# Altium integrated library Renesas Microcontroller H8.IntLib: 489 symbols (part 22 of 25)
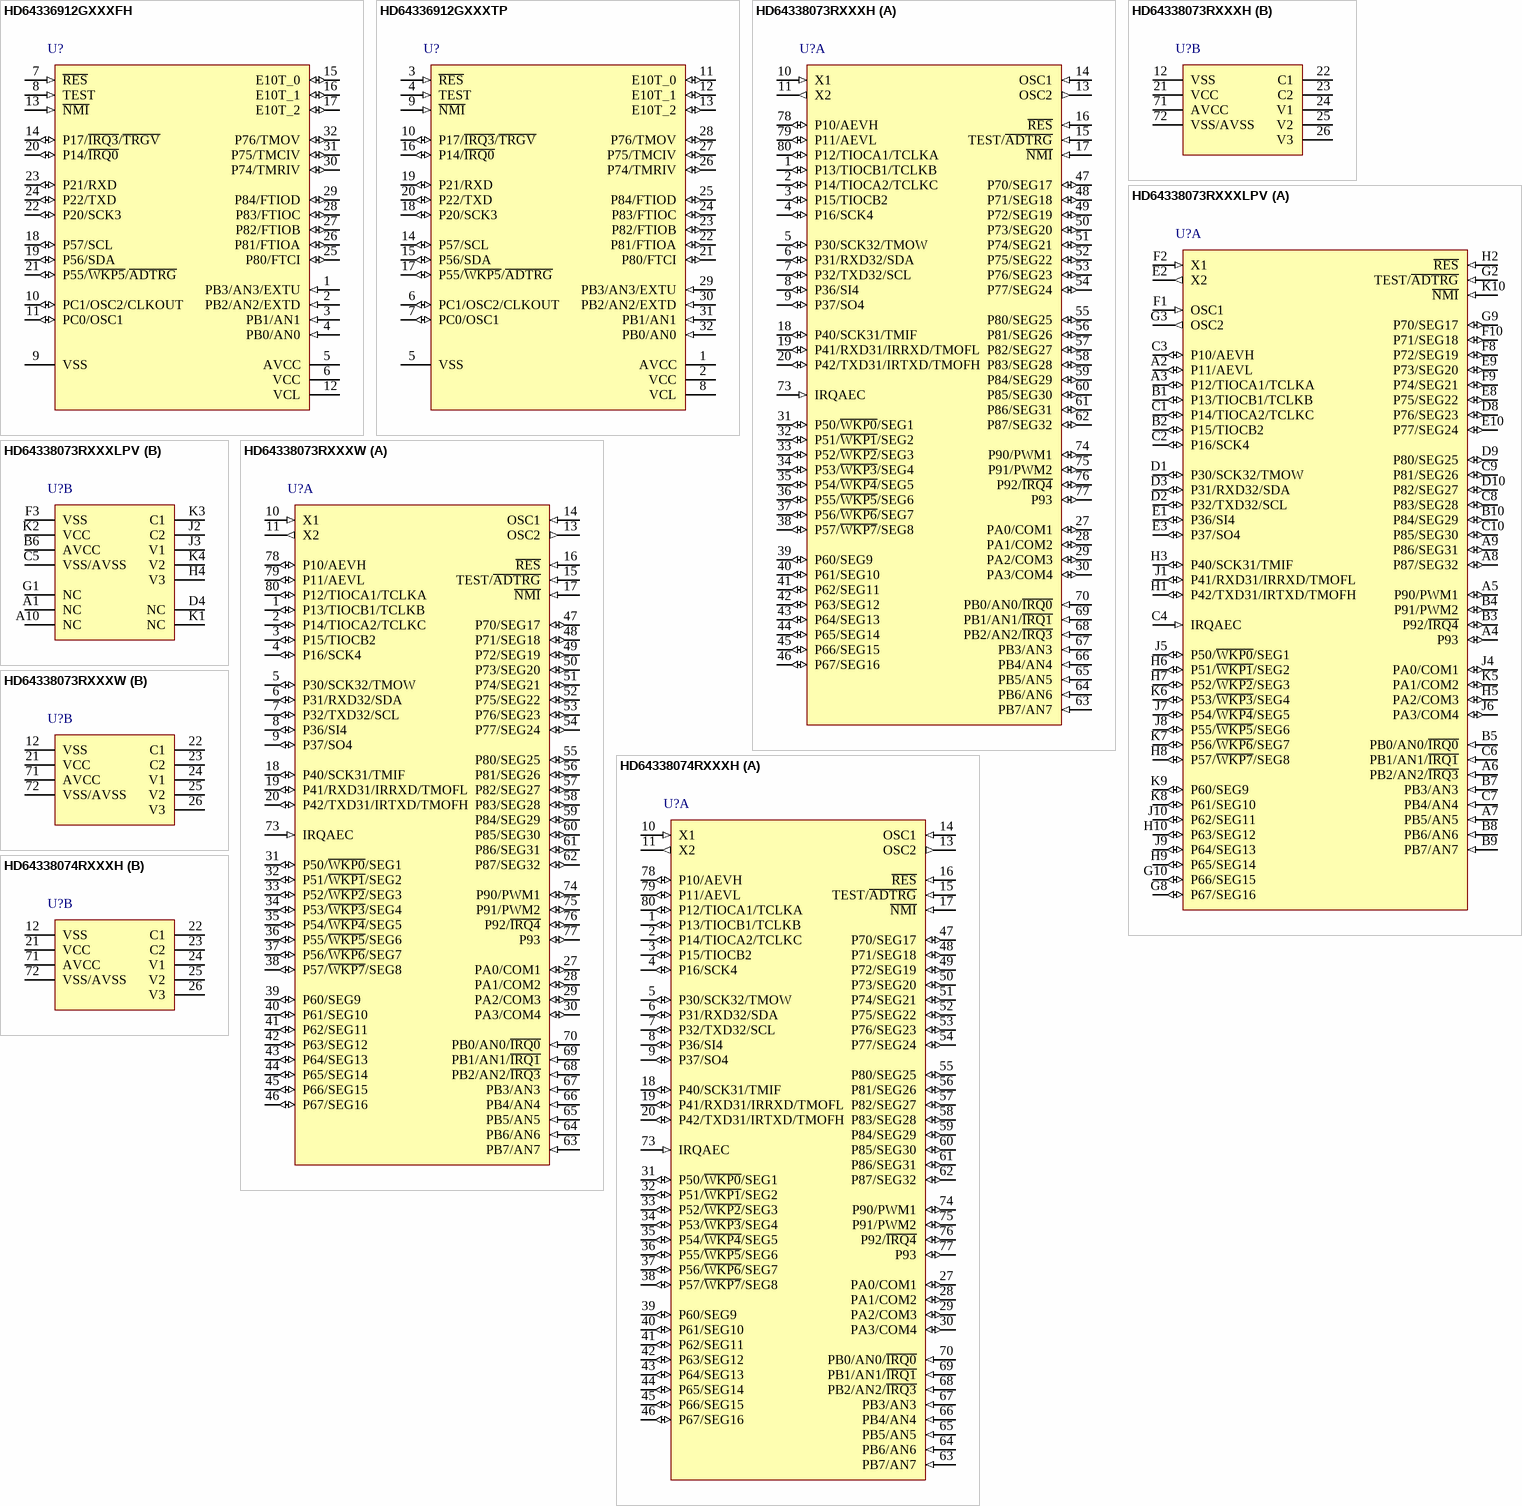
[diagram p109: symbols HD64336912GXXXFH to HD64338074RXXXH]

## HD64338073RXXXH
designator U?
H8 Family 32/16-bit CISC, H8/300H Super Low Power, 24K ROM, 1K RAM, 4.2MHz, 1.8 to 3.6V, 80-Pin QFP; Published: 28-Aug-2009; DatasheetVersion: Rev.4.00, Aug-2006; PackageVersion: Sep-2005; PackageReference: PRQP0080JB-A; Publisher: Altium Limited; PackageDescription: 80-Pin Plastic Quad Flat Pack, 14 x 14 x 2.7 mm Body, 0.65 mm Pitch; Code_JEITA: P-QFP80-14x14-0.65; Code_IPC: QFP65P1720X1720-80; ComponentLink1Description: Manufacturer Link; ComponentLink1URL: http://sg.renesas.com/fmwk.jsp?cnt=h8_family_landing.jsp&fp=/products/mpumcu/h8_family/; ComponentLink2Description: Datasheet; ComponentLink2URL: http://documentation.renesas.com/eng/products/mpumcu/rej09b0093_h838076r.pdf; ComponentLink3Description: Packaging Specification; ComponentLink3URL: http://sg.renesas.com/media/products/common_info/package/pdf/ic/code/prqp0080jb_a.pdf
footprint PRQP0080JB-A_N (QFP, 80-Leads, Body 14x14mm, Pitch 0.65mm, IPC Medium Density)
footprint PRQP0080JB-A_L (QFP, 80-Leads, Body 14x14mm, Pitch 0.65mm, IPC High Density)
footprint PRQP0080JB-A_M (QFP, 80-Leads, Body 14x14mm, Pitch 0.65mm, IPC Low Density)
part A pins: 1 P13/TIOCB1/TCLKB (io), 2 P14/TIOCA2/TCLKC (io), 3 P15/TIOCB2 (io), 4 P16/SCK4 (io), 5 P30/SCK32/TMOW (io), 6 P31/RXD32/SDA (io), 7 P32/TXD32/SCL (io), 8 P36/SI4 (io), 9 P37/SO4 (io), 10 X1 (in), 11 X2 (out), 13 OSC2 (out), 14 OSC1 (in), 15 TEST/~{ADTRG} (in), 16 ~{RES} (in), 17 ~{NMI} (in), 18 P40/SCK31/TMIF (io), 19 P41/RXD31/IRRXD/TMOFL (io), 20 P42/TXD31/IRTXD/TMOFH (io), 27 PA0/COM1 (io), 28 PA1/COM2 (io), 29 PA2/COM3 (io), 30 PA3/COM4 (io), 31 P50/~{WKP0}/SEG1 (io), 32 P51/~{WKP1}/SEG2 (io), 33 P52/~{WKP2}/SEG3 (io), 34 P53/~{WKP3}/SEG4 (io), 35 P54/~{WKP4}/SEG5 (io), 36 P55/~{WKP5}/SEG6 (io), 37 P56/~{WKP6}/SEG7 (io), 38 P57/~{WKP7}/SEG8 (io), 39 P60/SEG9 (io), 40 P61/SEG10 (io), 41 P62/SEG11 (io), 42 P63/SEG12 (io), 43 P64/SEG13 (io), 44 P65/SEG14 (io), 45 P66/SEG15 (io), 46 P67/SEG16 (io), 47 P70/SEG17 (io), 48 P71/SEG18 (io), 49 P72/SEG19 (io), 50 P73/SEG20 (io), 51 P74/SEG21 (io), 52 P75/SEG22 (io), 53 P76/SEG23 (io), 54 P77/SEG24 (io), 55 P80/SEG25 (io), 56 P81/SEG26 (io), 57 P82/SEG27 (io), 58 P83/SEG28 (io), 59 P84/SEG29 (io), 60 P85/SEG30 (io), 61 P86/SEG31 (io), 62 P87/SEG32 (io), 63 PB7/AN7 (in), 64 PB6/AN6 (in), 65 PB5/AN5 (in), 66 PB4/AN4 (in), 67 PB3/AN3 (in), 68 PB2/AN2/~{IRQ3} (in), 69 PB1/AN1/~{IRQ1} (in), 70 PB0/AN0/~{IRQ0} (in), 73 IRQAEC (in), 74 P90/PWM1 (io), 75 P91/PWM2 (io), 76 P92/~{IRQ4} (io), 77 P93 (io), 78 P10/AEVH (io), 79 P11/AEVL (io), 80 P12/TIOCA1/TCLKA (io)
part B pins: 12 VSS (power), 21 VCC (power), 22 C1 (power), 23 C2 (power), 24 V1 (power), 25 V2 (power), 26 V3 (power), 71 AVCC (power), 72 VSS/AVSS (power)

## HD64338073RXXXLPV
designator U?
H8 Family 32/16-bit CISC, H8/300H Super Low Power, 24K ROM, 1K RAM, 4.2MHz, 1.8 to 3.6V, 85-Ball BGA; Published: 28-Aug-2009; DatasheetVersion: Rev.4.00, Aug-2006; PackageVersion: Sep-2005; PackageReference: PTLG0085JA-A; Publisher: Altium Limited; PackageDescription: 85-Ball Plastic Thin Fine-Pitch BGA, 7 x 7 mm Body, 0.65 mm Pitch; Code_JEITA: P-TFLGA85-7x7-0.65; ComponentLink1Description: Manufacturer Link; ComponentLink1URL: http://sg.renesas.com/fmwk.jsp?cnt=h8_family_landing.jsp&fp=/products/mpumcu/h8_family/; ComponentLink2Description: Datasheet; ComponentLink2URL: http://documentation.renesas.com/eng/products/mpumcu/rej09b0093_h838076r.pdf; ComponentLink3Description: Packaging Specification; ComponentLink3URL: http://sg.renesas.com/media/products/common_info/package/pdf/ic/code/ptlg0085ja_a.pdf
footprint PTLG0085JA-A (BGA, 85-Leads, Body 7x7mm, Pitch 0.65mm)
part A pins: A2 P11/AEVL (io), A3 P12/TIOCA1/TCLKA (io), A4 P93 (io), A5 P90/PWM1 (io), A6 PB2/AN2/~{IRQ3} (in), A7 PB5/AN5 (in), A8 P87/SEG32 (io), A9 P86/SEG31 (io), B1 P13/TIOCB1/TCLKB (io), B2 P15/TIOCB2 (io), B3 P92/~{IRQ4} (io), B4 P91/PWM2 (io), B5 PB0/AN0/~{IRQ0} (in), B7 PB3/AN3 (in), B8 PB6/AN6 (in), B9 PB7/AN7 (in), B10 P84/SEG29 (io), C1 P14/TIOCA2/TCLKC (io), C2 P16/SCK4 (io), C3 P10/AEVH (io), C4 IRQAEC (in), C6 PB1/AN1/~{IRQ1} (in), C7 PB4/AN4 (in), C8 P83/SEG28 (io), C9 P81/SEG26 (io), C10 P85/SEG30 (io), D1 P30/SCK32/TMOW (io), D2 P32/TXD32/SCL (io), D3 P31/RXD32/SDA (io), D8 P76/SEG23 (io), D9 P80/SEG25 (io), D10 P82/SEG27 (io), E1 P36/SI4 (io), E2 X2 (out), E3 P37/SO4 (io), E8 P75/SEG22 (io), E9 P73/SEG20 (io), E10 P77/SEG24 (io), F1 OSC1 (in), F2 X1 (in), F8 P72/SEG19 (io), F9 P74/SEG21 (io), F10 P71/SEG18 (io), G2 TEST/~{ADTRG} (in), G3 OSC2 (out), G8 P67/SEG16 (io), G9 P70/SEG17 (io), G10 P66/SEG15 (io), H1 P42/TXD31/IRTXD/TMOFH (io), H2 ~{RES} (in), H3 P40/SCK31/TMIF (io), H5 PA2/COM3 (io), H6 P51/~{WKP1}/SEG2 (io), H7 P52/~{WKP2}/SEG3 (io), H8 P57/~{WKP7}/SEG8 (io), H9 P65/SEG14 (io), H10 P63/SEG12 (io), J1 P41/RXD31/IRRXD/TMOFL (io), J4 PA0/COM1 (io), J5 P50/~{WKP0}/SEG1 (io), J6 PA3/COM4 (io), J7 P54/~{WKP4}/SEG5 (io), J8 P55/~{WKP5}/SEG6 (io), J9 P64/SEG13 (io), J10 P62/SEG11 (io), K5 PA1/COM2 (io), K6 P53/~{WKP3}/SEG4 (io), K7 P56/~{WKP6}/SEG7 (io), K8 P61/SEG10 (io), K9 P60/SEG9 (io), K10 ~{NMI} (in)
part B pins: A1 NC, A10 NC, B6 AVCC (power), C5 VSS/AVSS (power), D4 NC, F3 VSS (power), G1 NC, H4 V3 (power), J2 C2 (power), J3 V1 (power), K1 NC, K2 VCC (power), K3 C1 (power), K4 V2 (power)

## HD64338073RXXXW
designator U?
H8 Family 32/16-bit CISC, H8/300H Super Low Power, 24K ROM, 1K RAM, 4.2MHz, 1.8 to 3.6V, 80-Pin QFP; Published: 28-Aug-2009; DatasheetVersion: Rev.4.00, Aug-2006; PackageVersion: Sep-2005; PackageReference: PTQP0080KC-A; Publisher: Altium Limited; PackageDescription: 80-Pin Plastic Thin Quad Flat Pack, 12 x 12 x 1.0 mm Body, 0.5 mm Pitch; Code_JEITA: P-TQFP80-12x12-0.50; ComponentLink1Description: Manufacturer Link; ComponentLink1URL: http://sg.renesas.com/fmwk.jsp?cnt=h8_family_landing.jsp&fp=/products/mpumcu/h8_family/; ComponentLink2Description: Datasheet; ComponentLink2URL: http://documentation.renesas.com/eng/products/mpumcu/rej09b0093_h838076r.pdf; ComponentLink3Description: Packaging Specification; ComponentLink3URL: http://sg.renesas.com/media/products/common_info/package/pdf/ic/code/ptqp0080kc_a.pdf
footprint PTQP0080KC-A_N (Thin QFP, 80-Leads, Body 12x12mm, Pitch 0.5mm, IPC Medium Density)
footprint PTQP0080KC-A_L (Thin QFP, 80-Leads, Body 12x12mm, Pitch 0.5mm, IPC High Density)
footprint PTQP0080KC-A_M (Thin QFP, 80-Leads, Body 12x12mm, Pitch 0.5mm, IPC Low Density)
part A pins: 1 P13/TIOCB1/TCLKB (io), 2 P14/TIOCA2/TCLKC (io), 3 P15/TIOCB2 (io), 4 P16/SCK4 (io), 5 P30/SCK32/TMOW (io), 6 P31/RXD32/SDA (io), 7 P32/TXD32/SCL (io), 8 P36/SI4 (io), 9 P37/SO4 (io), 10 X1 (in), 11 X2 (out), 13 OSC2 (out), 14 OSC1 (in), 15 TEST/~{ADTRG} (in), 16 ~{RES} (in), 17 ~{NMI} (in), 18 P40/SCK31/TMIF (io), 19 P41/RXD31/IRRXD/TMOFL (io), 20 P42/TXD31/IRTXD/TMOFH (io), 27 PA0/COM1 (io), 28 PA1/COM2 (io), 29 PA2/COM3 (io), 30 PA3/COM4 (io), 31 P50/~{WKP0}/SEG1 (io), 32 P51/~{WKP1}/SEG2 (io), 33 P52/~{WKP2}/SEG3 (io), 34 P53/~{WKP3}/SEG4 (io), 35 P54/~{WKP4}/SEG5 (io), 36 P55/~{WKP5}/SEG6 (io), 37 P56/~{WKP6}/SEG7 (io), 38 P57/~{WKP7}/SEG8 (io), 39 P60/SEG9 (io), 40 P61/SEG10 (io), 41 P62/SEG11 (io), 42 P63/SEG12 (io), 43 P64/SEG13 (io), 44 P65/SEG14 (io), 45 P66/SEG15 (io), 46 P67/SEG16 (io), 47 P70/SEG17 (io), 48 P71/SEG18 (io), 49 P72/SEG19 (io), 50 P73/SEG20 (io), 51 P74/SEG21 (io), 52 P75/SEG22 (io), 53 P76/SEG23 (io), 54 P77/SEG24 (io), 55 P80/SEG25 (io), 56 P81/SEG26 (io), 57 P82/SEG27 (io), 58 P83/SEG28 (io), 59 P84/SEG29 (io), 60 P85/SEG30 (io), 61 P86/SEG31 (io), 62 P87/SEG32 (io), 63 PB7/AN7 (in), 64 PB6/AN6 (in), 65 PB5/AN5 (in), 66 PB4/AN4 (in), 67 PB3/AN3 (in), 68 PB2/AN2/~{IRQ3} (in), 69 PB1/AN1/~{IRQ1} (in), 70 PB0/AN0/~{IRQ0} (in), 73 IRQAEC (in), 74 P90/PWM1 (io), 75 P91/PWM2 (io), 76 P92/~{IRQ4} (io), 77 P93 (io), 78 P10/AEVH (io), 79 P11/AEVL (io), 80 P12/TIOCA1/TCLKA (io)
part B pins: 12 VSS (power), 21 VCC (power), 22 C1 (power), 23 C2 (power), 24 V1 (power), 25 V2 (power), 26 V3 (power), 71 AVCC (power), 72 VSS/AVSS (power)

## HD64338074RXXXH
designator U?
H8 Family 32/16-bit CISC, H8/300H Super Low Power, 32K ROM, 1K RAM, 4.2MHz, 1.8 to 3.6V, 80-Pin QFP; Published: 28-Aug-2009; DatasheetVersion: Rev.4.00, Aug-2006; PackageVersion: Sep-2005; PackageReference: PRQP0080JB-A; Publisher: Altium Limited; PackageDescription: 80-Pin Plastic Quad Flat Pack, 14 x 14 x 2.7 mm Body, 0.65 mm Pitch; Code_JEITA: P-QFP80-14x14-0.65; Code_IPC: QFP65P1720X1720-80; ComponentLink1Description: Manufacturer Link; ComponentLink1URL: http://sg.renesas.com/fmwk.jsp?cnt=h8_family_landing.jsp&fp=/products/mpumcu/h8_family/; ComponentLink2Description: Datasheet; ComponentLink2URL: http://documentation.renesas.com/eng/products/mpumcu/rej09b0093_h838076r.pdf; ComponentLink3Description: Packaging Specification; ComponentLink3URL: http://sg.renesas.com/media/products/common_info/package/pdf/ic/code/prqp0080jb_a.pdf
footprint PRQP0080JB-A_N (QFP, 80-Leads, Body 14x14mm, Pitch 0.65mm, IPC Medium Density)
footprint PRQP0080JB-A_L (QFP, 80-Leads, Body 14x14mm, Pitch 0.65mm, IPC High Density)
footprint PRQP0080JB-A_M (QFP, 80-Leads, Body 14x14mm, Pitch 0.65mm, IPC Low Density)
part A pins: 1 P13/TIOCB1/TCLKB (io), 2 P14/TIOCA2/TCLKC (io), 3 P15/TIOCB2 (io), 4 P16/SCK4 (io), 5 P30/SCK32/TMOW (io), 6 P31/RXD32/SDA (io), 7 P32/TXD32/SCL (io), 8 P36/SI4 (io), 9 P37/SO4 (io), 10 X1 (in), 11 X2 (out), 13 OSC2 (out), 14 OSC1 (in), 15 TEST/~{ADTRG} (in), 16 ~{RES} (in), 17 ~{NMI} (in), 18 P40/SCK31/TMIF (io), 19 P41/RXD31/IRRXD/TMOFL (io), 20 P42/TXD31/IRTXD/TMOFH (io), 27 PA0/COM1 (io), 28 PA1/COM2 (io), 29 PA2/COM3 (io), 30 PA3/COM4 (io), 31 P50/~{WKP0}/SEG1 (io), 32 P51/~{WKP1}/SEG2 (io), 33 P52/~{WKP2}/SEG3 (io), 34 P53/~{WKP3}/SEG4 (io), 35 P54/~{WKP4}/SEG5 (io), 36 P55/~{WKP5}/SEG6 (io), 37 P56/~{WKP6}/SEG7 (io), 38 P57/~{WKP7}/SEG8 (io), 39 P60/SEG9 (io), 40 P61/SEG10 (io), 41 P62/SEG11 (io), 42 P63/SEG12 (io), 43 P64/SEG13 (io), 44 P65/SEG14 (io), 45 P66/SEG15 (io), 46 P67/SEG16 (io), 47 P70/SEG17 (io), 48 P71/SEG18 (io), 49 P72/SEG19 (io), 50 P73/SEG20 (io), 51 P74/SEG21 (io), 52 P75/SEG22 (io), 53 P76/SEG23 (io), 54 P77/SEG24 (io), 55 P80/SEG25 (io), 56 P81/SEG26 (io), 57 P82/SEG27 (io), 58 P83/SEG28 (io), 59 P84/SEG29 (io), 60 P85/SEG30 (io), 61 P86/SEG31 (io), 62 P87/SEG32 (io), 63 PB7/AN7 (in), 64 PB6/AN6 (in), 65 PB5/AN5 (in), 66 PB4/AN4 (in), 67 PB3/AN3 (in), 68 PB2/AN2/~{IRQ3} (in), 69 PB1/AN1/~{IRQ1} (in), 70 PB0/AN0/~{IRQ0} (in), 73 IRQAEC (in), 74 P90/PWM1 (io), 75 P91/PWM2 (io), 76 P92/~{IRQ4} (io), 77 P93 (io), 78 P10/AEVH (io), 79 P11/AEVL (io), 80 P12/TIOCA1/TCLKA (io)
part B pins: 12 VSS (power), 21 VCC (power), 22 C1 (power), 23 C2 (power), 24 V1 (power), 25 V2 (power), 26 V3 (power), 71 AVCC (power), 72 VSS/AVSS (power)

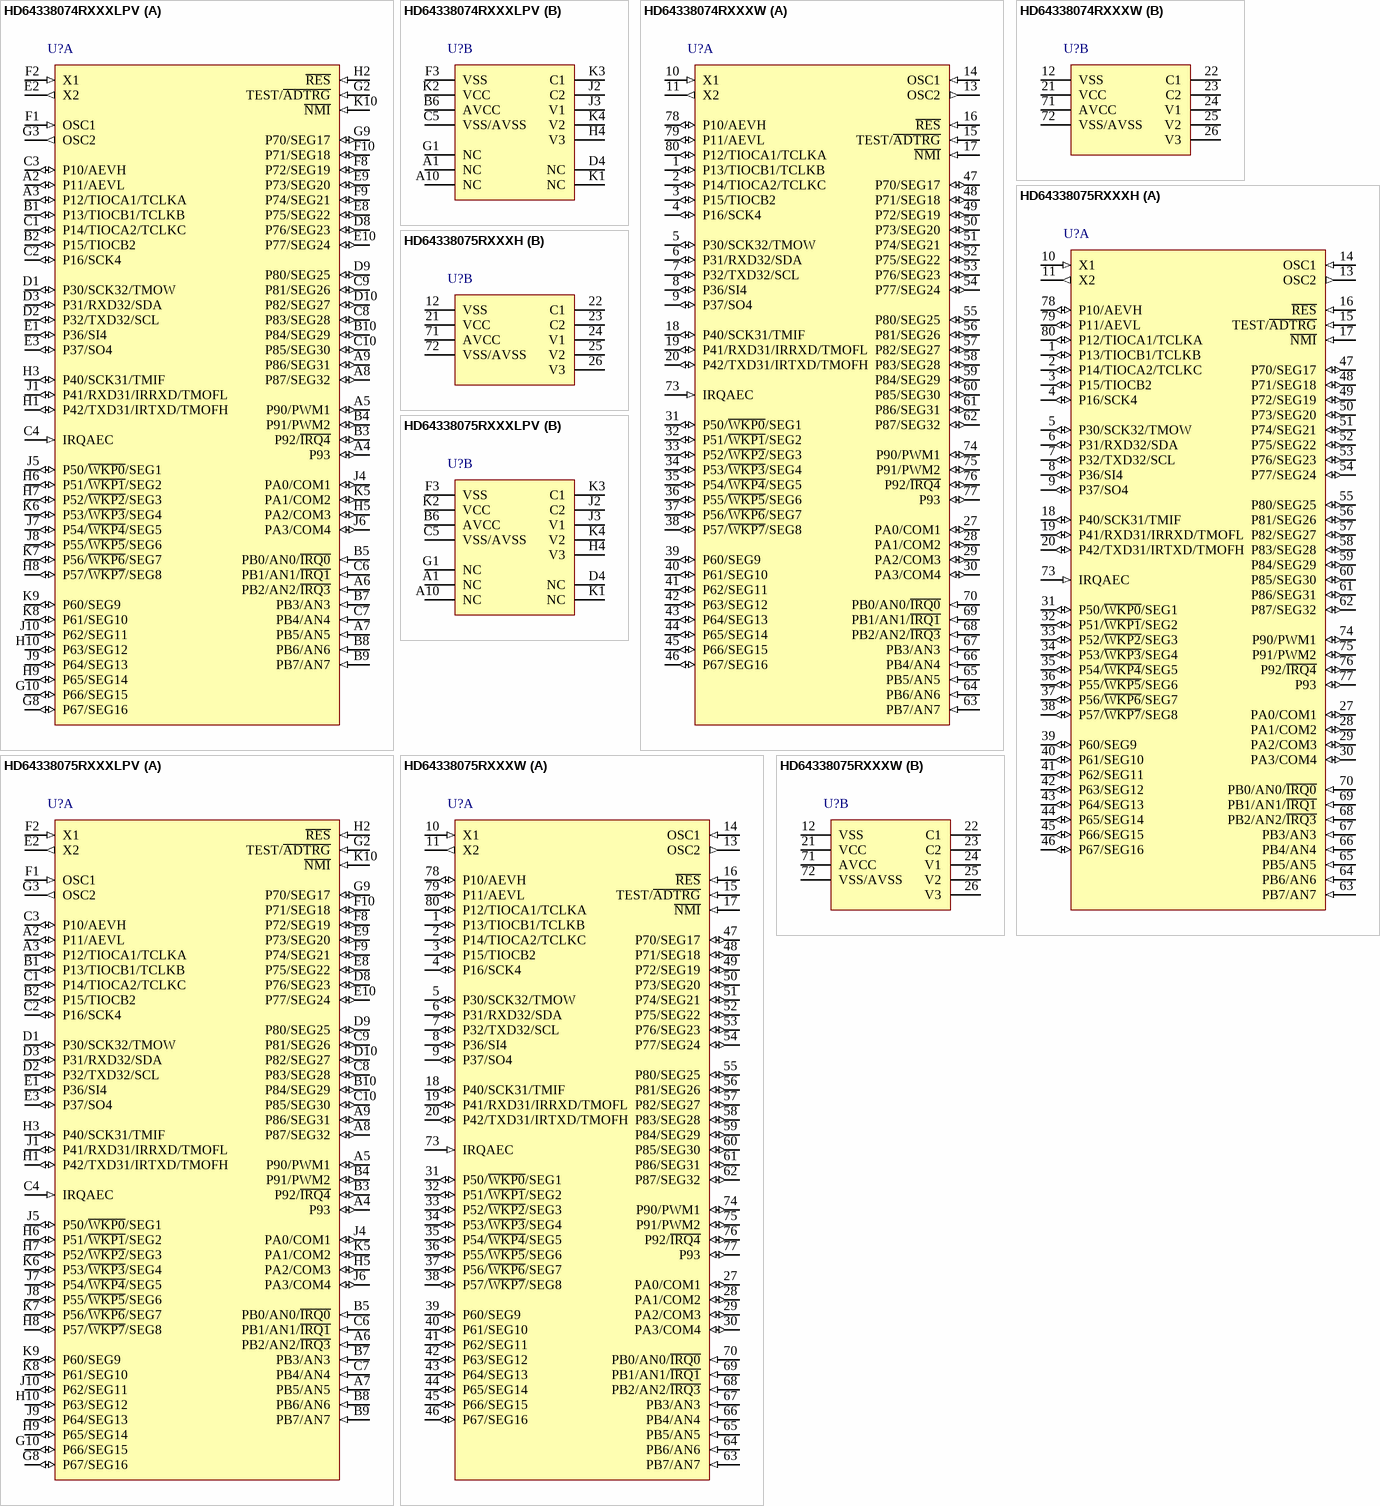
[diagram p76: symbols HD64338074RXXXLPV to HD64338075RXXXW]

## HD64338074RXXXLPV
designator U?
H8 Family 32/16-bit CISC, H8/300H Super Low Power, 32K ROM, 1K RAM, 4.2MHz, 1.8 to 3.6V, 85-Ball BGA; Published: 28-Aug-2009; DatasheetVersion: Rev.4.00, Aug-2006; PackageVersion: Sep-2005; PackageReference: PTLG0085JA-A; Publisher: Altium Limited; PackageDescription: 85-Ball Plastic Thin Fine-Pitch BGA, 7 x 7 mm Body, 0.65 mm Pitch; Code_JEITA: P-TFLGA85-7x7-0.65; ComponentLink1Description: Manufacturer Link; ComponentLink1URL: http://sg.renesas.com/fmwk.jsp?cnt=h8_family_landing.jsp&fp=/products/mpumcu/h8_family/; ComponentLink2Description: Datasheet; ComponentLink2URL: http://documentation.renesas.com/eng/products/mpumcu/rej09b0093_h838076r.pdf; ComponentLink3Description: Packaging Specification; ComponentLink3URL: http://sg.renesas.com/media/products/common_info/package/pdf/ic/code/ptlg0085ja_a.pdf
footprint PTLG0085JA-A (BGA, 85-Leads, Body 7x7mm, Pitch 0.65mm)
part A pins: A2 P11/AEVL (io), A3 P12/TIOCA1/TCLKA (io), A4 P93 (io), A5 P90/PWM1 (io), A6 PB2/AN2/~{IRQ3} (in), A7 PB5/AN5 (in), A8 P87/SEG32 (io), A9 P86/SEG31 (io), B1 P13/TIOCB1/TCLKB (io), B2 P15/TIOCB2 (io), B3 P92/~{IRQ4} (io), B4 P91/PWM2 (io), B5 PB0/AN0/~{IRQ0} (in), B7 PB3/AN3 (in), B8 PB6/AN6 (in), B9 PB7/AN7 (in), B10 P84/SEG29 (io), C1 P14/TIOCA2/TCLKC (io), C2 P16/SCK4 (io), C3 P10/AEVH (io), C4 IRQAEC (in), C6 PB1/AN1/~{IRQ1} (in), C7 PB4/AN4 (in), C8 P83/SEG28 (io), C9 P81/SEG26 (io), C10 P85/SEG30 (io), D1 P30/SCK32/TMOW (io), D2 P32/TXD32/SCL (io), D3 P31/RXD32/SDA (io), D8 P76/SEG23 (io), D9 P80/SEG25 (io), D10 P82/SEG27 (io), E1 P36/SI4 (io), E2 X2 (out), E3 P37/SO4 (io), E8 P75/SEG22 (io), E9 P73/SEG20 (io), E10 P77/SEG24 (io), F1 OSC1 (in), F2 X1 (in), F8 P72/SEG19 (io), F9 P74/SEG21 (io), F10 P71/SEG18 (io), G2 TEST/~{ADTRG} (in), G3 OSC2 (out), G8 P67/SEG16 (io), G9 P70/SEG17 (io), G10 P66/SEG15 (io), H1 P42/TXD31/IRTXD/TMOFH (io), H2 ~{RES} (in), H3 P40/SCK31/TMIF (io), H5 PA2/COM3 (io), H6 P51/~{WKP1}/SEG2 (io), H7 P52/~{WKP2}/SEG3 (io), H8 P57/~{WKP7}/SEG8 (io), H9 P65/SEG14 (io), H10 P63/SEG12 (io), J1 P41/RXD31/IRRXD/TMOFL (io), J4 PA0/COM1 (io), J5 P50/~{WKP0}/SEG1 (io), J6 PA3/COM4 (io), J7 P54/~{WKP4}/SEG5 (io), J8 P55/~{WKP5}/SEG6 (io), J9 P64/SEG13 (io), J10 P62/SEG11 (io), K5 PA1/COM2 (io), K6 P53/~{WKP3}/SEG4 (io), K7 P56/~{WKP6}/SEG7 (io), K8 P61/SEG10 (io), K9 P60/SEG9 (io), K10 ~{NMI} (in)
part B pins: A1 NC, A10 NC, B6 AVCC (power), C5 VSS/AVSS (power), D4 NC, F3 VSS (power), G1 NC, H4 V3 (power), J2 C2 (power), J3 V1 (power), K1 NC, K2 VCC (power), K3 C1 (power), K4 V2 (power)

## HD64338074RXXXW
designator U?
H8 Family 32/16-bit CISC, H8/300H Super Low Power, 32K ROM, 1K RAM, 4.2MHz, 1.8 to 3.6V, 80-Pin QFP; Published: 28-Aug-2009; DatasheetVersion: Rev.4.00, Aug-2006; PackageVersion: Sep-2005; PackageReference: PTQP0080KC-A; Publisher: Altium Limited; PackageDescription: 80-Pin Plastic Thin Quad Flat Pack, 12 x 12 x 1.0 mm Body, 0.5 mm Pitch; Code_JEITA: P-TQFP80-12x12-0.50; ComponentLink1Description: Manufacturer Link; ComponentLink1URL: http://sg.renesas.com/fmwk.jsp?cnt=h8_family_landing.jsp&fp=/products/mpumcu/h8_family/; ComponentLink2Description: Datasheet; ComponentLink2URL: http://documentation.renesas.com/eng/products/mpumcu/rej09b0093_h838076r.pdf; ComponentLink3Description: Packaging Specification; ComponentLink3URL: http://sg.renesas.com/media/products/common_info/package/pdf/ic/code/ptqp0080kc_a.pdf
footprint PTQP0080KC-A_N (Thin QFP, 80-Leads, Body 12x12mm, Pitch 0.5mm, IPC Medium Density)
footprint PTQP0080KC-A_L (Thin QFP, 80-Leads, Body 12x12mm, Pitch 0.5mm, IPC High Density)
footprint PTQP0080KC-A_M (Thin QFP, 80-Leads, Body 12x12mm, Pitch 0.5mm, IPC Low Density)
part A pins: 1 P13/TIOCB1/TCLKB (io), 2 P14/TIOCA2/TCLKC (io), 3 P15/TIOCB2 (io), 4 P16/SCK4 (io), 5 P30/SCK32/TMOW (io), 6 P31/RXD32/SDA (io), 7 P32/TXD32/SCL (io), 8 P36/SI4 (io), 9 P37/SO4 (io), 10 X1 (in), 11 X2 (out), 13 OSC2 (out), 14 OSC1 (in), 15 TEST/~{ADTRG} (in), 16 ~{RES} (in), 17 ~{NMI} (in), 18 P40/SCK31/TMIF (io), 19 P41/RXD31/IRRXD/TMOFL (io), 20 P42/TXD31/IRTXD/TMOFH (io), 27 PA0/COM1 (io), 28 PA1/COM2 (io), 29 PA2/COM3 (io), 30 PA3/COM4 (io), 31 P50/~{WKP0}/SEG1 (io), 32 P51/~{WKP1}/SEG2 (io), 33 P52/~{WKP2}/SEG3 (io), 34 P53/~{WKP3}/SEG4 (io), 35 P54/~{WKP4}/SEG5 (io), 36 P55/~{WKP5}/SEG6 (io), 37 P56/~{WKP6}/SEG7 (io), 38 P57/~{WKP7}/SEG8 (io), 39 P60/SEG9 (io), 40 P61/SEG10 (io), 41 P62/SEG11 (io), 42 P63/SEG12 (io), 43 P64/SEG13 (io), 44 P65/SEG14 (io), 45 P66/SEG15 (io), 46 P67/SEG16 (io), 47 P70/SEG17 (io), 48 P71/SEG18 (io), 49 P72/SEG19 (io), 50 P73/SEG20 (io), 51 P74/SEG21 (io), 52 P75/SEG22 (io), 53 P76/SEG23 (io), 54 P77/SEG24 (io), 55 P80/SEG25 (io), 56 P81/SEG26 (io), 57 P82/SEG27 (io), 58 P83/SEG28 (io), 59 P84/SEG29 (io), 60 P85/SEG30 (io), 61 P86/SEG31 (io), 62 P87/SEG32 (io), 63 PB7/AN7 (in), 64 PB6/AN6 (in), 65 PB5/AN5 (in), 66 PB4/AN4 (in), 67 PB3/AN3 (in), 68 PB2/AN2/~{IRQ3} (in), 69 PB1/AN1/~{IRQ1} (in), 70 PB0/AN0/~{IRQ0} (in), 73 IRQAEC (in), 74 P90/PWM1 (io), 75 P91/PWM2 (io), 76 P92/~{IRQ4} (io), 77 P93 (io), 78 P10/AEVH (io), 79 P11/AEVL (io), 80 P12/TIOCA1/TCLKA (io)
part B pins: 12 VSS (power), 21 VCC (power), 22 C1 (power), 23 C2 (power), 24 V1 (power), 25 V2 (power), 26 V3 (power), 71 AVCC (power), 72 VSS/AVSS (power)

## HD64338075RXXXH
designator U?
H8 Family 32/16-bit CISC, H8/300H Super Low Power, 40K ROM, 2K RAM, 4.2MHz, 1.8 to 3.6V, 80-Pin QFP; Published: 28-Aug-2009; DatasheetVersion: Rev.4.00, Aug-2006; PackageVersion: Sep-2005; PackageReference: PRQP0080JB-A; Publisher: Altium Limited; PackageDescription: 80-Pin Plastic Quad Flat Pack, 14 x 14 x 2.7 mm Body, 0.65 mm Pitch; Code_JEITA: P-QFP80-14x14-0.65; Code_IPC: QFP65P1720X1720-80; ComponentLink1Description: Manufacturer Link; ComponentLink1URL: http://sg.renesas.com/fmwk.jsp?cnt=h8_family_landing.jsp&fp=/products/mpumcu/h8_family/; ComponentLink2Description: Datasheet; ComponentLink2URL: http://documentation.renesas.com/eng/products/mpumcu/rej09b0093_h838076r.pdf; ComponentLink3Description: Packaging Specification; ComponentLink3URL: http://sg.renesas.com/media/products/common_info/package/pdf/ic/code/prqp0080jb_a.pdf
footprint PRQP0080JB-A_N (QFP, 80-Leads, Body 14x14mm, Pitch 0.65mm, IPC Medium Density)
footprint PRQP0080JB-A_L (QFP, 80-Leads, Body 14x14mm, Pitch 0.65mm, IPC High Density)
footprint PRQP0080JB-A_M (QFP, 80-Leads, Body 14x14mm, Pitch 0.65mm, IPC Low Density)
part A pins: 1 P13/TIOCB1/TCLKB (io), 2 P14/TIOCA2/TCLKC (io), 3 P15/TIOCB2 (io), 4 P16/SCK4 (io), 5 P30/SCK32/TMOW (io), 6 P31/RXD32/SDA (io), 7 P32/TXD32/SCL (io), 8 P36/SI4 (io), 9 P37/SO4 (io), 10 X1 (in), 11 X2 (out), 13 OSC2 (out), 14 OSC1 (in), 15 TEST/~{ADTRG} (in), 16 ~{RES} (in), 17 ~{NMI} (in), 18 P40/SCK31/TMIF (io), 19 P41/RXD31/IRRXD/TMOFL (io), 20 P42/TXD31/IRTXD/TMOFH (io), 27 PA0/COM1 (io), 28 PA1/COM2 (io), 29 PA2/COM3 (io), 30 PA3/COM4 (io), 31 P50/~{WKP0}/SEG1 (io), 32 P51/~{WKP1}/SEG2 (io), 33 P52/~{WKP2}/SEG3 (io), 34 P53/~{WKP3}/SEG4 (io), 35 P54/~{WKP4}/SEG5 (io), 36 P55/~{WKP5}/SEG6 (io), 37 P56/~{WKP6}/SEG7 (io), 38 P57/~{WKP7}/SEG8 (io), 39 P60/SEG9 (io), 40 P61/SEG10 (io), 41 P62/SEG11 (io), 42 P63/SEG12 (io), 43 P64/SEG13 (io), 44 P65/SEG14 (io), 45 P66/SEG15 (io), 46 P67/SEG16 (io), 47 P70/SEG17 (io), 48 P71/SEG18 (io), 49 P72/SEG19 (io), 50 P73/SEG20 (io), 51 P74/SEG21 (io), 52 P75/SEG22 (io), 53 P76/SEG23 (io), 54 P77/SEG24 (io), 55 P80/SEG25 (io), 56 P81/SEG26 (io), 57 P82/SEG27 (io), 58 P83/SEG28 (io), 59 P84/SEG29 (io), 60 P85/SEG30 (io), 61 P86/SEG31 (io), 62 P87/SEG32 (io), 63 PB7/AN7 (in), 64 PB6/AN6 (in), 65 PB5/AN5 (in), 66 PB4/AN4 (in), 67 PB3/AN3 (in), 68 PB2/AN2/~{IRQ3} (in), 69 PB1/AN1/~{IRQ1} (in), 70 PB0/AN0/~{IRQ0} (in), 73 IRQAEC (in), 74 P90/PWM1 (io), 75 P91/PWM2 (io), 76 P92/~{IRQ4} (io), 77 P93 (io), 78 P10/AEVH (io), 79 P11/AEVL (io), 80 P12/TIOCA1/TCLKA (io)
part B pins: 12 VSS (power), 21 VCC (power), 22 C1 (power), 23 C2 (power), 24 V1 (power), 25 V2 (power), 26 V3 (power), 71 AVCC (power), 72 VSS/AVSS (power)

## HD64338075RXXXLPV
designator U?
H8 Family 32/16-bit CISC, H8/300H Super Low Power, 40K ROM, 2K RAM, 4.2MHz, 1.8 to 3.6V, 85-Ball BGA; Published: 28-Aug-2009; DatasheetVersion: Rev.4.00, Aug-2006; PackageVersion: Sep-2005; PackageReference: PTLG0085JA-A; Publisher: Altium Limited; PackageDescription: 85-Ball Plastic Thin Fine-Pitch BGA, 7 x 7 mm Body, 0.65 mm Pitch; Code_JEITA: P-TFLGA85-7x7-0.65; ComponentLink1Description: Manufacturer Link; ComponentLink1URL: http://sg.renesas.com/fmwk.jsp?cnt=h8_family_landing.jsp&fp=/products/mpumcu/h8_family/; ComponentLink2Description: Datasheet; ComponentLink2URL: http://documentation.renesas.com/eng/products/mpumcu/rej09b0093_h838076r.pdf; ComponentLink3Description: Packaging Specification; ComponentLink3URL: http://sg.renesas.com/media/products/common_info/package/pdf/ic/code/ptlg0085ja_a.pdf
footprint PTLG0085JA-A (BGA, 85-Leads, Body 7x7mm, Pitch 0.65mm)
part A pins: A2 P11/AEVL (io), A3 P12/TIOCA1/TCLKA (io), A4 P93 (io), A5 P90/PWM1 (io), A6 PB2/AN2/~{IRQ3} (in), A7 PB5/AN5 (in), A8 P87/SEG32 (io), A9 P86/SEG31 (io), B1 P13/TIOCB1/TCLKB (io), B2 P15/TIOCB2 (io), B3 P92/~{IRQ4} (io), B4 P91/PWM2 (io), B5 PB0/AN0/~{IRQ0} (in), B7 PB3/AN3 (in), B8 PB6/AN6 (in), B9 PB7/AN7 (in), B10 P84/SEG29 (io), C1 P14/TIOCA2/TCLKC (io), C2 P16/SCK4 (io), C3 P10/AEVH (io), C4 IRQAEC (in), C6 PB1/AN1/~{IRQ1} (in), C7 PB4/AN4 (in), C8 P83/SEG28 (io), C9 P81/SEG26 (io), C10 P85/SEG30 (io), D1 P30/SCK32/TMOW (io), D2 P32/TXD32/SCL (io), D3 P31/RXD32/SDA (io), D8 P76/SEG23 (io), D9 P80/SEG25 (io), D10 P82/SEG27 (io), E1 P36/SI4 (io), E2 X2 (out), E3 P37/SO4 (io), E8 P75/SEG22 (io), E9 P73/SEG20 (io), E10 P77/SEG24 (io), F1 OSC1 (in), F2 X1 (in), F8 P72/SEG19 (io), F9 P74/SEG21 (io), F10 P71/SEG18 (io), G2 TEST/~{ADTRG} (in), G3 OSC2 (out), G8 P67/SEG16 (io), G9 P70/SEG17 (io), G10 P66/SEG15 (io), H1 P42/TXD31/IRTXD/TMOFH (io), H2 ~{RES} (in), H3 P40/SCK31/TMIF (io), H5 PA2/COM3 (io), H6 P51/~{WKP1}/SEG2 (io), H7 P52/~{WKP2}/SEG3 (io), H8 P57/~{WKP7}/SEG8 (io), H9 P65/SEG14 (io), H10 P63/SEG12 (io), J1 P41/RXD31/IRRXD/TMOFL (io), J4 PA0/COM1 (io), J5 P50/~{WKP0}/SEG1 (io), J6 PA3/COM4 (io), J7 P54/~{WKP4}/SEG5 (io), J8 P55/~{WKP5}/SEG6 (io), J9 P64/SEG13 (io), J10 P62/SEG11 (io), K5 PA1/COM2 (io), K6 P53/~{WKP3}/SEG4 (io), K7 P56/~{WKP6}/SEG7 (io), K8 P61/SEG10 (io), K9 P60/SEG9 (io), K10 ~{NMI} (in)
part B pins: A1 NC, A10 NC, B6 AVCC (power), C5 VSS/AVSS (power), D4 NC, F3 VSS (power), G1 NC, H4 V3 (power), J2 C2 (power), J3 V1 (power), K1 NC, K2 VCC (power), K3 C1 (power), K4 V2 (power)

## HD64338075RXXXW
designator U?
H8 Family 32/16-bit CISC, H8/300H Super Low Power, 40K ROM, 2K RAM, 4.2MHz, 1.8 to 3.6V, 80-Pin QFP; Published: 28-Aug-2009; DatasheetVersion: Rev.4.00, Aug-2006; PackageVersion: Sep-2005; PackageReference: PTQP0080KC-A; Publisher: Altium Limited; PackageDescription: 80-Pin Plastic Thin Quad Flat Pack, 12 x 12 x 1.0 mm Body, 0.5 mm Pitch; Code_JEITA: P-TQFP80-12x12-0.50; ComponentLink1Description: Manufacturer Link; ComponentLink1URL: http://sg.renesas.com/fmwk.jsp?cnt=h8_family_landing.jsp&fp=/products/mpumcu/h8_family/; ComponentLink2Description: Datasheet; ComponentLink2URL: http://documentation.renesas.com/eng/products/mpumcu/rej09b0093_h838076r.pdf; ComponentLink3Description: Packaging Specification; ComponentLink3URL: http://sg.renesas.com/media/products/common_info/package/pdf/ic/code/ptqp0080kc_a.pdf
footprint PTQP0080KC-A_N (Thin QFP, 80-Leads, Body 12x12mm, Pitch 0.5mm, IPC Medium Density)
footprint PTQP0080KC-A_L (Thin QFP, 80-Leads, Body 12x12mm, Pitch 0.5mm, IPC High Density)
footprint PTQP0080KC-A_M (Thin QFP, 80-Leads, Body 12x12mm, Pitch 0.5mm, IPC Low Density)
part A pins: 1 P13/TIOCB1/TCLKB (io), 2 P14/TIOCA2/TCLKC (io), 3 P15/TIOCB2 (io), 4 P16/SCK4 (io), 5 P30/SCK32/TMOW (io), 6 P31/RXD32/SDA (io), 7 P32/TXD32/SCL (io), 8 P36/SI4 (io), 9 P37/SO4 (io), 10 X1 (in), 11 X2 (out), 13 OSC2 (out), 14 OSC1 (in), 15 TEST/~{ADTRG} (in), 16 ~{RES} (in), 17 ~{NMI} (in), 18 P40/SCK31/TMIF (io), 19 P41/RXD31/IRRXD/TMOFL (io), 20 P42/TXD31/IRTXD/TMOFH (io), 27 PA0/COM1 (io), 28 PA1/COM2 (io), 29 PA2/COM3 (io), 30 PA3/COM4 (io), 31 P50/~{WKP0}/SEG1 (io), 32 P51/~{WKP1}/SEG2 (io), 33 P52/~{WKP2}/SEG3 (io), 34 P53/~{WKP3}/SEG4 (io), 35 P54/~{WKP4}/SEG5 (io), 36 P55/~{WKP5}/SEG6 (io), 37 P56/~{WKP6}/SEG7 (io), 38 P57/~{WKP7}/SEG8 (io), 39 P60/SEG9 (io), 40 P61/SEG10 (io), 41 P62/SEG11 (io), 42 P63/SEG12 (io), 43 P64/SEG13 (io), 44 P65/SEG14 (io), 45 P66/SEG15 (io), 46 P67/SEG16 (io), 47 P70/SEG17 (io), 48 P71/SEG18 (io), 49 P72/SEG19 (io), 50 P73/SEG20 (io), 51 P74/SEG21 (io), 52 P75/SEG22 (io), 53 P76/SEG23 (io), 54 P77/SEG24 (io), 55 P80/SEG25 (io), 56 P81/SEG26 (io), 57 P82/SEG27 (io), 58 P83/SEG28 (io), 59 P84/SEG29 (io), 60 P85/SEG30 (io), 61 P86/SEG31 (io), 62 P87/SEG32 (io), 63 PB7/AN7 (in), 64 PB6/AN6 (in), 65 PB5/AN5 (in), 66 PB4/AN4 (in), 67 PB3/AN3 (in), 68 PB2/AN2/~{IRQ3} (in), 69 PB1/AN1/~{IRQ1} (in), 70 PB0/AN0/~{IRQ0} (in), 73 IRQAEC (in), 74 P90/PWM1 (io), 75 P91/PWM2 (io), 76 P92/~{IRQ4} (io), 77 P93 (io), 78 P10/AEVH (io), 79 P11/AEVL (io), 80 P12/TIOCA1/TCLKA (io)
part B pins: 12 VSS (power), 21 VCC (power), 22 C1 (power), 23 C2 (power), 24 V1 (power), 25 V2 (power), 26 V3 (power), 71 AVCC (power), 72 VSS/AVSS (power)

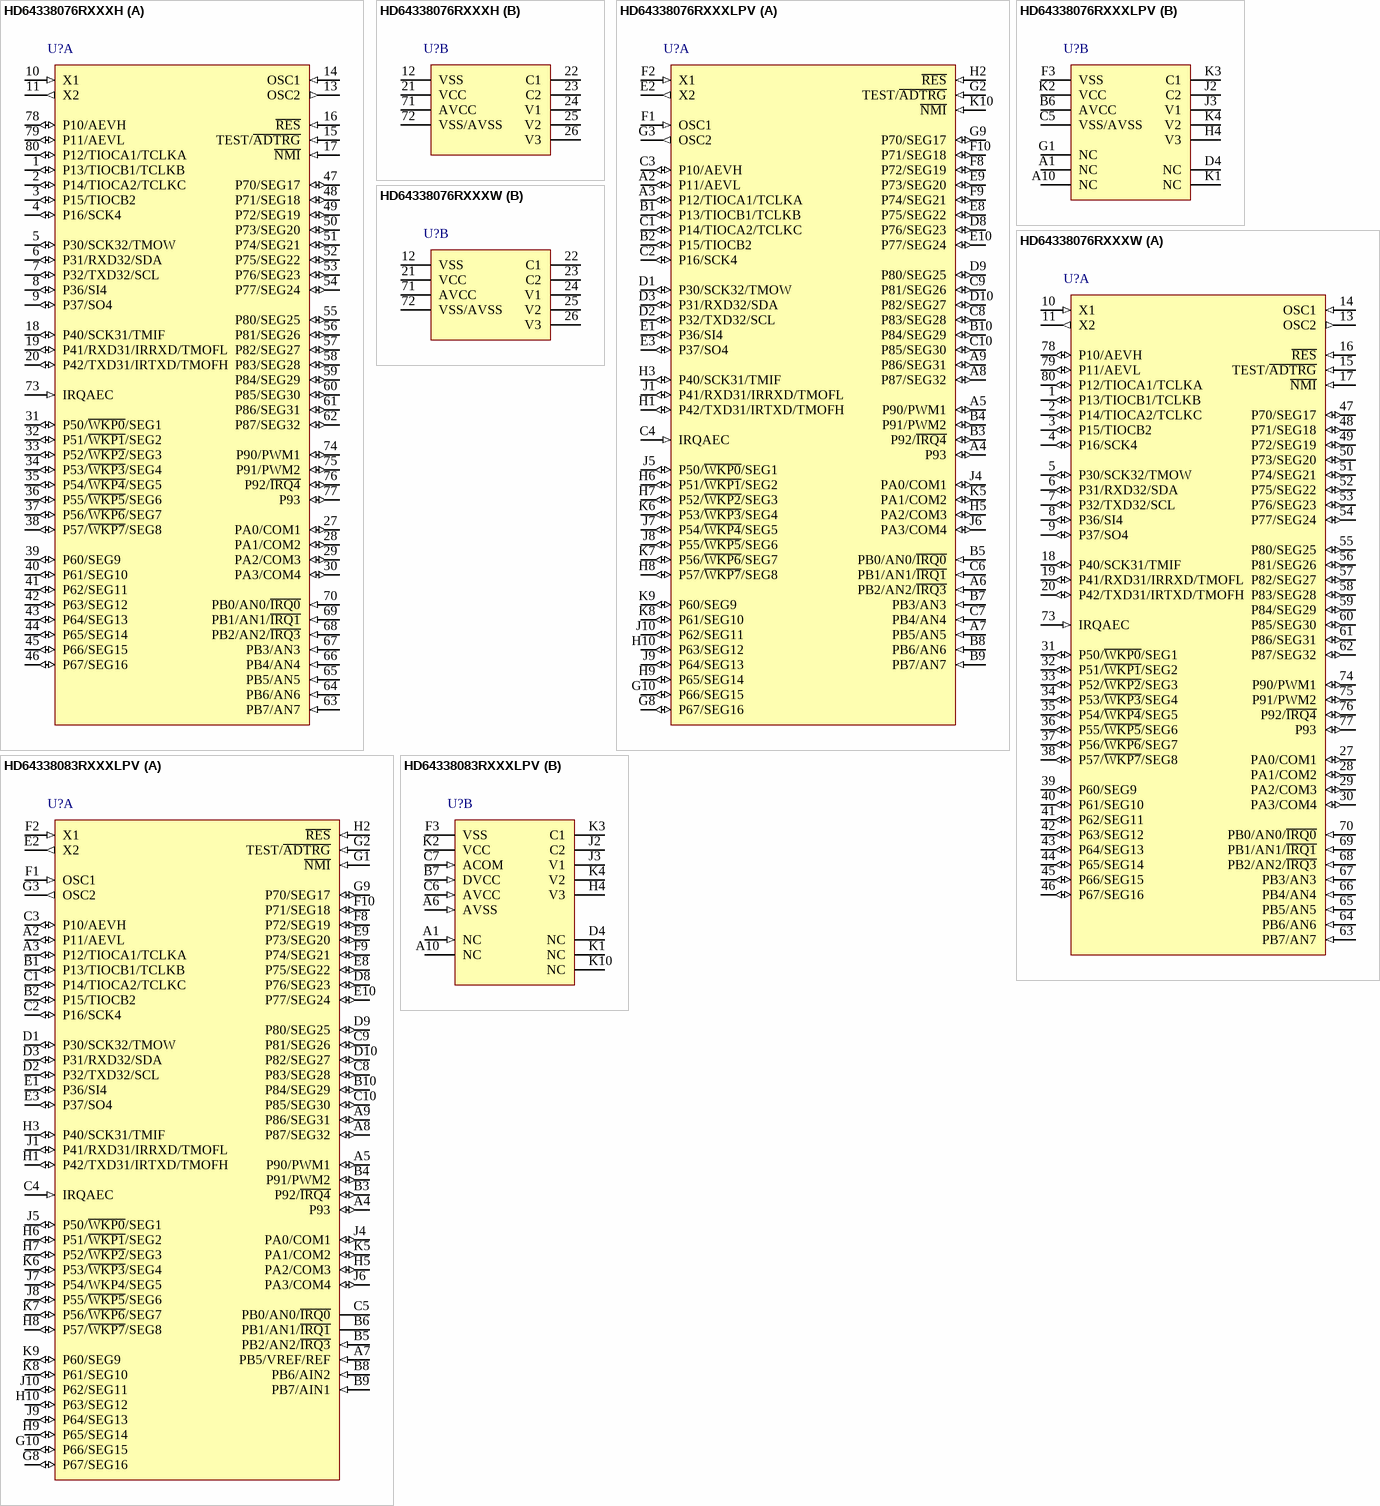
[diagram p77: symbols HD64338076RXXXH to HD64338083RXXXLPV]

## HD64338076RXXXH
designator U?
H8 Family 32/16-bit CISC, H8/300H Super Low Power, 48K ROM, 2K RAM, 4.2MHz, 1.8 to 3.6V, 80-Pin QFP; Published: 28-Aug-2009; DatasheetVersion: Rev.4.00, Aug-2006; PackageVersion: Sep-2005; PackageReference: PRQP0080JB-A; Publisher: Altium Limited; PackageDescription: 80-Pin Plastic Quad Flat Pack, 14 x 14 x 2.7 mm Body, 0.65 mm Pitch; Code_JEITA: P-QFP80-14x14-0.65; Code_IPC: QFP65P1720X1720-80; ComponentLink1Description: Manufacturer Link; ComponentLink1URL: http://sg.renesas.com/fmwk.jsp?cnt=h8_family_landing.jsp&fp=/products/mpumcu/h8_family/; ComponentLink2Description: Datasheet; ComponentLink2URL: http://documentation.renesas.com/eng/products/mpumcu/rej09b0093_h838076r.pdf; ComponentLink3Description: Packaging Specification; ComponentLink3URL: http://sg.renesas.com/media/products/common_info/package/pdf/ic/code/prqp0080jb_a.pdf
footprint PRQP0080JB-A_N (QFP, 80-Leads, Body 14x14mm, Pitch 0.65mm, IPC Medium Density)
footprint PRQP0080JB-A_L (QFP, 80-Leads, Body 14x14mm, Pitch 0.65mm, IPC High Density)
footprint PRQP0080JB-A_M (QFP, 80-Leads, Body 14x14mm, Pitch 0.65mm, IPC Low Density)
part A pins: 1 P13/TIOCB1/TCLKB (io), 2 P14/TIOCA2/TCLKC (io), 3 P15/TIOCB2 (io), 4 P16/SCK4 (io), 5 P30/SCK32/TMOW (io), 6 P31/RXD32/SDA (io), 7 P32/TXD32/SCL (io), 8 P36/SI4 (io), 9 P37/SO4 (io), 10 X1 (in), 11 X2 (out), 13 OSC2 (out), 14 OSC1 (in), 15 TEST/~{ADTRG} (in), 16 ~{RES} (in), 17 ~{NMI} (in), 18 P40/SCK31/TMIF (io), 19 P41/RXD31/IRRXD/TMOFL (io), 20 P42/TXD31/IRTXD/TMOFH (io), 27 PA0/COM1 (io), 28 PA1/COM2 (io), 29 PA2/COM3 (io), 30 PA3/COM4 (io), 31 P50/~{WKP0}/SEG1 (io), 32 P51/~{WKP1}/SEG2 (io), 33 P52/~{WKP2}/SEG3 (io), 34 P53/~{WKP3}/SEG4 (io), 35 P54/~{WKP4}/SEG5 (io), 36 P55/~{WKP5}/SEG6 (io), 37 P56/~{WKP6}/SEG7 (io), 38 P57/~{WKP7}/SEG8 (io), 39 P60/SEG9 (io), 40 P61/SEG10 (io), 41 P62/SEG11 (io), 42 P63/SEG12 (io), 43 P64/SEG13 (io), 44 P65/SEG14 (io), 45 P66/SEG15 (io), 46 P67/SEG16 (io), 47 P70/SEG17 (io), 48 P71/SEG18 (io), 49 P72/SEG19 (io), 50 P73/SEG20 (io), 51 P74/SEG21 (io), 52 P75/SEG22 (io), 53 P76/SEG23 (io), 54 P77/SEG24 (io), 55 P80/SEG25 (io), 56 P81/SEG26 (io), 57 P82/SEG27 (io), 58 P83/SEG28 (io), 59 P84/SEG29 (io), 60 P85/SEG30 (io), 61 P86/SEG31 (io), 62 P87/SEG32 (io), 63 PB7/AN7 (in), 64 PB6/AN6 (in), 65 PB5/AN5 (in), 66 PB4/AN4 (in), 67 PB3/AN3 (in), 68 PB2/AN2/~{IRQ3} (in), 69 PB1/AN1/~{IRQ1} (in), 70 PB0/AN0/~{IRQ0} (in), 73 IRQAEC (in), 74 P90/PWM1 (io), 75 P91/PWM2 (io), 76 P92/~{IRQ4} (io), 77 P93 (io), 78 P10/AEVH (io), 79 P11/AEVL (io), 80 P12/TIOCA1/TCLKA (io)
part B pins: 12 VSS (power), 21 VCC (power), 22 C1 (power), 23 C2 (power), 24 V1 (power), 25 V2 (power), 26 V3 (power), 71 AVCC (power), 72 VSS/AVSS (power)

## HD64338076RXXXLPV
designator U?
H8 Family 32/16-bit CISC, H8/300H Super Low Power, 48K ROM, 2K RAM, 4.2MHz, 1.8 to 3.6V, 85-Ball BGA; Published: 28-Aug-2009; DatasheetVersion: Rev.4.00, Aug-2006; PackageVersion: Sep-2005; PackageReference: PTLG0085JA-A; Publisher: Altium Limited; PackageDescription: 85-Ball Plastic Thin Fine-Pitch BGA, 7 x 7 mm Body, 0.65 mm Pitch; Code_JEITA: P-TFLGA85-7x7-0.65; ComponentLink1Description: Manufacturer Link; ComponentLink1URL: http://sg.renesas.com/fmwk.jsp?cnt=h8_family_landing.jsp&fp=/products/mpumcu/h8_family/; ComponentLink2Description: Datasheet; ComponentLink2URL: http://documentation.renesas.com/eng/products/mpumcu/rej09b0093_h838076r.pdf; ComponentLink3Description: Packaging Specification; ComponentLink3URL: http://sg.renesas.com/media/products/common_info/package/pdf/ic/code/ptlg0085ja_a.pdf
footprint PTLG0085JA-A (BGA, 85-Leads, Body 7x7mm, Pitch 0.65mm)
part A pins: A2 P11/AEVL (io), A3 P12/TIOCA1/TCLKA (io), A4 P93 (io), A5 P90/PWM1 (io), A6 PB2/AN2/~{IRQ3} (in), A7 PB5/AN5 (in), A8 P87/SEG32 (io), A9 P86/SEG31 (io), B1 P13/TIOCB1/TCLKB (io), B2 P15/TIOCB2 (io), B3 P92/~{IRQ4} (io), B4 P91/PWM2 (io), B5 PB0/AN0/~{IRQ0} (in), B7 PB3/AN3 (in), B8 PB6/AN6 (in), B9 PB7/AN7 (in), B10 P84/SEG29 (io), C1 P14/TIOCA2/TCLKC (io), C2 P16/SCK4 (io), C3 P10/AEVH (io), C4 IRQAEC (in), C6 PB1/AN1/~{IRQ1} (in), C7 PB4/AN4 (in), C8 P83/SEG28 (io), C9 P81/SEG26 (io), C10 P85/SEG30 (io), D1 P30/SCK32/TMOW (io), D2 P32/TXD32/SCL (io), D3 P31/RXD32/SDA (io), D8 P76/SEG23 (io), D9 P80/SEG25 (io), D10 P82/SEG27 (io), E1 P36/SI4 (io), E2 X2 (out), E3 P37/SO4 (io), E8 P75/SEG22 (io), E9 P73/SEG20 (io), E10 P77/SEG24 (io), F1 OSC1 (in), F2 X1 (in), F8 P72/SEG19 (io), F9 P74/SEG21 (io), F10 P71/SEG18 (io), G2 TEST/~{ADTRG} (in), G3 OSC2 (out), G8 P67/SEG16 (io), G9 P70/SEG17 (io), G10 P66/SEG15 (io), H1 P42/TXD31/IRTXD/TMOFH (io), H2 ~{RES} (in), H3 P40/SCK31/TMIF (io), H5 PA2/COM3 (io), H6 P51/~{WKP1}/SEG2 (io), H7 P52/~{WKP2}/SEG3 (io), H8 P57/~{WKP7}/SEG8 (io), H9 P65/SEG14 (io), H10 P63/SEG12 (io), J1 P41/RXD31/IRRXD/TMOFL (io), J4 PA0/COM1 (io), J5 P50/~{WKP0}/SEG1 (io), J6 PA3/COM4 (io), J7 P54/~{WKP4}/SEG5 (io), J8 P55/~{WKP5}/SEG6 (io), J9 P64/SEG13 (io), J10 P62/SEG11 (io), K5 PA1/COM2 (io), K6 P53/~{WKP3}/SEG4 (io), K7 P56/~{WKP6}/SEG7 (io), K8 P61/SEG10 (io), K9 P60/SEG9 (io), K10 ~{NMI} (in)
part B pins: A1 NC, A10 NC, B6 AVCC (power), C5 VSS/AVSS (power), D4 NC, F3 VSS (power), G1 NC, H4 V3 (power), J2 C2 (power), J3 V1 (power), K1 NC, K2 VCC (power), K3 C1 (power), K4 V2 (power)

## HD64338076RXXXW
designator U?
H8 Family 32/16-bit CISC, H8/300H Super Low Power, 48K ROM, 2K RAM, 4.2MHz, 1.8 to 3.6V, 80-Pin QFP; Published: 28-Aug-2009; DatasheetVersion: Rev.4.00, Aug-2006; PackageVersion: Sep-2005; PackageReference: PTQP0080KC-A; Publisher: Altium Limited; PackageDescription: 80-Pin Plastic Thin Quad Flat Pack, 12 x 12 x 1.0 mm Body, 0.5 mm Pitch; Code_JEITA: P-TQFP80-12x12-0.50; ComponentLink1Description: Manufacturer Link; ComponentLink1URL: http://sg.renesas.com/fmwk.jsp?cnt=h8_family_landing.jsp&fp=/products/mpumcu/h8_family/; ComponentLink2Description: Datasheet; ComponentLink2URL: http://documentation.renesas.com/eng/products/mpumcu/rej09b0093_h838076r.pdf; ComponentLink3Description: Packaging Specification; ComponentLink3URL: http://sg.renesas.com/media/products/common_info/package/pdf/ic/code/ptqp0080kc_a.pdf
footprint PTQP0080KC-A_N (Thin QFP, 80-Leads, Body 12x12mm, Pitch 0.5mm, IPC Medium Density)
footprint PTQP0080KC-A_L (Thin QFP, 80-Leads, Body 12x12mm, Pitch 0.5mm, IPC High Density)
footprint PTQP0080KC-A_M (Thin QFP, 80-Leads, Body 12x12mm, Pitch 0.5mm, IPC Low Density)
part A pins: 1 P13/TIOCB1/TCLKB (io), 2 P14/TIOCA2/TCLKC (io), 3 P15/TIOCB2 (io), 4 P16/SCK4 (io), 5 P30/SCK32/TMOW (io), 6 P31/RXD32/SDA (io), 7 P32/TXD32/SCL (io), 8 P36/SI4 (io), 9 P37/SO4 (io), 10 X1 (in), 11 X2 (out), 13 OSC2 (out), 14 OSC1 (in), 15 TEST/~{ADTRG} (in), 16 ~{RES} (in), 17 ~{NMI} (in), 18 P40/SCK31/TMIF (io), 19 P41/RXD31/IRRXD/TMOFL (io), 20 P42/TXD31/IRTXD/TMOFH (io), 27 PA0/COM1 (io), 28 PA1/COM2 (io), 29 PA2/COM3 (io), 30 PA3/COM4 (io), 31 P50/~{WKP0}/SEG1 (io), 32 P51/~{WKP1}/SEG2 (io), 33 P52/~{WKP2}/SEG3 (io), 34 P53/~{WKP3}/SEG4 (io), 35 P54/~{WKP4}/SEG5 (io), 36 P55/~{WKP5}/SEG6 (io), 37 P56/~{WKP6}/SEG7 (io), 38 P57/~{WKP7}/SEG8 (io), 39 P60/SEG9 (io), 40 P61/SEG10 (io), 41 P62/SEG11 (io), 42 P63/SEG12 (io), 43 P64/SEG13 (io), 44 P65/SEG14 (io), 45 P66/SEG15 (io), 46 P67/SEG16 (io), 47 P70/SEG17 (io), 48 P71/SEG18 (io), 49 P72/SEG19 (io), 50 P73/SEG20 (io), 51 P74/SEG21 (io), 52 P75/SEG22 (io), 53 P76/SEG23 (io), 54 P77/SEG24 (io), 55 P80/SEG25 (io), 56 P81/SEG26 (io), 57 P82/SEG27 (io), 58 P83/SEG28 (io), 59 P84/SEG29 (io), 60 P85/SEG30 (io), 61 P86/SEG31 (io), 62 P87/SEG32 (io), 63 PB7/AN7 (in), 64 PB6/AN6 (in), 65 PB5/AN5 (in), 66 PB4/AN4 (in), 67 PB3/AN3 (in), 68 PB2/AN2/~{IRQ3} (in), 69 PB1/AN1/~{IRQ1} (in), 70 PB0/AN0/~{IRQ0} (in), 73 IRQAEC (in), 74 P90/PWM1 (io), 75 P91/PWM2 (io), 76 P92/~{IRQ4} (io), 77 P93 (io), 78 P10/AEVH (io), 79 P11/AEVL (io), 80 P12/TIOCA1/TCLKA (io)
part B pins: 12 VSS (power), 21 VCC (power), 22 C1 (power), 23 C2 (power), 24 V1 (power), 25 V2 (power), 26 V3 (power), 71 AVCC (power), 72 VSS/AVSS (power)

## HD64338083RXXXLPV
designator U?
H8 Family 32/16-bit CISC, H8/300H Super Low Power, 24K ROM, 1K RAM, 4.2MHz, 1.8 to 3.6V, 85-Ball BGA; Published: 28-Aug-2009; DatasheetVersion: Rev.3.00, Aug-2006; PackageVersion: Sep-2005; PackageReference: PTLG0085JA-A; Publisher: Altium Limited; PackageDescription: 85-Ball Plastic Thin Fine-Pitch BGA, 7 x 7 mm Body, 0.65 mm Pitch; Code_JEITA: P-TFLGA85-7x7-0.65; ComponentLink1Description: Manufacturer Link; ComponentLink1URL: http://sg.renesas.com/fmwk.jsp?cnt=h8_family_landing.jsp&fp=/products/mpumcu/h8_family/; ComponentLink2Description: Datasheet; ComponentLink2URL: http://documentation.renesas.com/eng/products/mpumcu/rej09b0182_h838086r.pdf; ComponentLink3Description: Packaging Specification; ComponentLink3URL: http://sg.renesas.com/media/products/common_info/package/pdf/ic/code/ptlg0085ja_a.pdf
footprint PTLG0085JA-A (BGA, 85-Leads, Body 7x7mm, Pitch 0.65mm)
part A pins: A2 P11/AEVL (io), A3 P12/TIOCA1/TCLKA (io), A4 P93 (io), A5 P90/PWM1 (io), A7 PB5/VREF/REF (in), A8 P87/SEG32 (io), A9 P86/SEG31 (io), B1 P13/TIOCB1/TCLKB (io), B2 P15/TIOCB2 (io), B3 P92/~{IRQ4} (io), B4 P91/PWM2 (io), B5 PB2/AN2/~{IRQ3} (in), B6 PB1/AN1/~{IRQ1} (power), B8 PB6/AIN2 (in), B9 PB7/AIN1 (in), B10 P84/SEG29 (io), C1 P14/TIOCA2/TCLKC (io), C2 P16/SCK4 (io), C3 P10/AEVH (io), C4 IRQAEC (in), C5 PB0/AN0/~{IRQ0} (power), C8 P83/SEG28 (io), C9 P81/SEG26 (io), C10 P85/SEG30 (io), D1 P30/SCK32/TMOW (io), D2 P32/TXD32/SCL (io), D3 P31/RXD32/SDA (io), D8 P76/SEG23 (io), D9 P80/SEG25 (io), D10 P82/SEG27 (io), E1 P36/SI4 (io), E2 X2 (out), E3 P37/SO4 (io), E8 P75/SEG22 (io), E9 P73/SEG20 (io), E10 P77/SEG24 (io), F1 OSC1 (in), F2 X1 (in), F8 P72/SEG19 (io), F9 P74/SEG21 (io), F10 P71/SEG18 (io), G1 ~{NMI} (in), G2 TEST/~{ADTRG} (in), G3 OSC2 (out), G8 P67/SEG16 (io), G9 P70/SEG17 (io), G10 P66/SEG15 (io), H1 P42/TXD31/IRTXD/TMOFH (io), H2 ~{RES} (in), H3 P40/SCK31/TMIF (io), H5 PA2/COM3 (io), H6 P51/~{WKP1}/SEG2 (io), H7 P52/~{WKP2}/SEG3 (io), H8 P57/~{WKP7}/SEG8 (io), H9 P65/SEG14 (io), H10 P63/SEG12 (io), J1 P41/RXD31/IRRXD/TMOFL (io), J4 PA0/COM1 (io), J5 P50/~{WKP0}/SEG1 (io), J6 PA3/COM4 (io), J7 P54/WKP4/SEG5 (io), J8 P55/~{WKP5}/SEG6 (io), J9 P64/SEG13 (io), J10 P62/SEG11 (io), K5 PA1/COM2 (io), K6 P53/~{WKP3}/SEG4 (io), K7 P56/~{WKP6}/SEG7 (io), K8 P61/SEG10 (io), K9 P60/SEG9 (io)
part B pins: A1 NC (in), A6 AVSS (in), A10 NC, B7 DVCC (in), C6 AVCC (in), C7 ACOM (in), D4 NC, F3 VSS (power), H4 V3 (power), J2 C2 (power), J3 V1 (power), K1 NC, K2 VCC (power), K3 C1 (power), K4 V2 (power), K10 NC

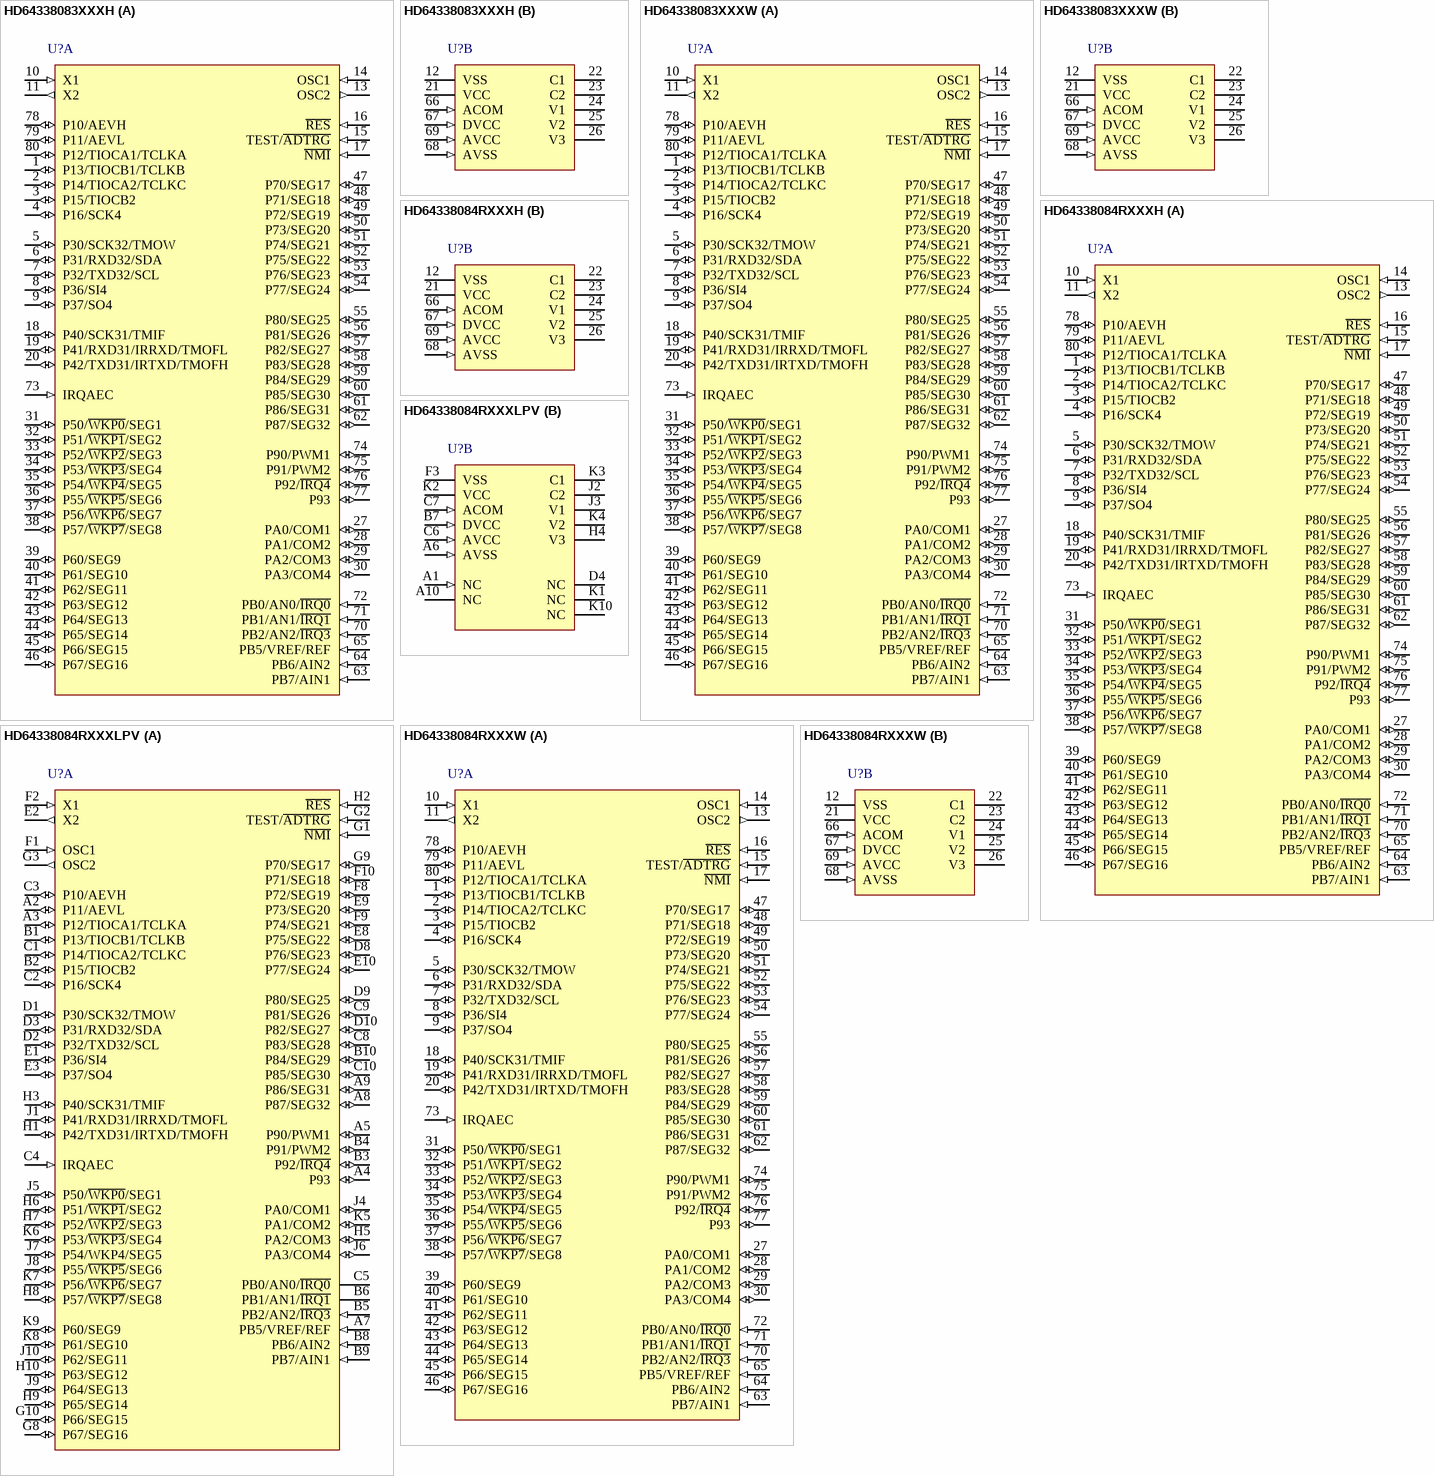
[diagram p78: symbols HD64338083XXXH to HD64338084RXXXW]

## HD64338083XXXH
designator U?
H8 Family 32/16-bit CISC, H8/300H Super Low Power, 24K ROM, 1K RAM, 4.2MHz, 1.8 to 3.6V, 80-Pin QFP; Published: 28-Aug-2009; DatasheetVersion: Rev.3.00, Aug-2006; PackageVersion: Sep-2005; PackageReference: PRQP0080JB-A; Publisher: Altium Limited; PackageDescription: 80-Pin Plastic Quad Flat Pack, 14 x 14 x 2.7 mm Body, 0.65 mm Pitch; Code_JEITA: P-QFP80-14x14-0.65; Code_IPC: QFP65P1720X1720-80; ComponentLink1Description: Manufacturer Link; ComponentLink1URL: http://sg.renesas.com/fmwk.jsp?cnt=h8_family_landing.jsp&fp=/products/mpumcu/h8_family/; ComponentLink2Description: Datasheet; ComponentLink2URL: http://documentation.renesas.com/eng/products/mpumcu/rej09b0182_h838086r.pdf; ComponentLink3Description: Packaging Specification; ComponentLink3URL: http://sg.renesas.com/media/products/common_info/package/pdf/ic/code/prqp0080jb_a.pdf
footprint PRQP0080JB-A_N (QFP, 80-Leads, Body 14x14mm, Pitch 0.65mm, IPC Medium Density)
footprint PRQP0080JB-A_L (QFP, 80-Leads, Body 14x14mm, Pitch 0.65mm, IPC High Density)
footprint PRQP0080JB-A_M (QFP, 80-Leads, Body 14x14mm, Pitch 0.65mm, IPC Low Density)
part A pins: 1 P13/TIOCB1/TCLKB (io), 2 P14/TIOCA2/TCLKC (io), 3 P15/TIOCB2 (io), 4 P16/SCK4 (io), 5 P30/SCK32/TMOW (io), 6 P31/RXD32/SDA (io), 7 P32/TXD32/SCL (io), 8 P36/SI4 (io), 9 P37/SO4 (io), 10 X1 (in), 11 X2 (out), 13 OSC2 (out), 14 OSC1 (in), 15 TEST/~{ADTRG} (in), 16 ~{RES} (in), 17 ~{NMI} (in), 18 P40/SCK31/TMIF (io), 19 P41/RXD31/IRRXD/TMOFL (io), 20 P42/TXD31/IRTXD/TMOFH (io), 27 PA0/COM1 (io), 28 PA1/COM2 (io), 29 PA2/COM3 (io), 30 PA3/COM4 (io), 31 P50/~{WKP0}/SEG1 (io), 32 P51/~{WKP1}/SEG2 (io), 33 P52/~{WKP2}/SEG3 (io), 34 P53/~{WKP3}/SEG4 (io), 35 P54/~{WKP4}/SEG5 (io), 36 P55/~{WKP5}/SEG6 (io), 37 P56/~{WKP6}/SEG7 (io), 38 P57/~{WKP7}/SEG8 (io), 39 P60/SEG9 (io), 40 P61/SEG10 (io), 41 P62/SEG11 (io), 42 P63/SEG12 (io), 43 P64/SEG13 (io), 44 P65/SEG14 (io), 45 P66/SEG15 (io), 46 P67/SEG16 (io), 47 P70/SEG17 (io), 48 P71/SEG18 (io), 49 P72/SEG19 (io), 50 P73/SEG20 (io), 51 P74/SEG21 (io), 52 P75/SEG22 (io), 53 P76/SEG23 (io), 54 P77/SEG24 (io), 55 P80/SEG25 (io), 56 P81/SEG26 (io), 57 P82/SEG27 (io), 58 P83/SEG28 (io), 59 P84/SEG29 (io), 60 P85/SEG30 (io), 61 P86/SEG31 (io), 62 P87/SEG32 (io), 63 PB7/AIN1 (in), 64 PB6/AIN2 (in), 65 PB5/VREF/REF (in), 70 PB2/AN2/~{IRQ3} (in), 71 PB1/AN1/~{IRQ1} (in), 72 PB0/AN0/~{IRQ0} (in), 73 IRQAEC (in), 74 P90/PWM1 (io), 75 P91/PWM2 (io), 76 P92/~{IRQ4} (io), 77 P93 (io), 78 P10/AEVH (io), 79 P11/AEVL (io), 80 P12/TIOCA1/TCLKA (io)
part B pins: 12 VSS (power), 21 VCC (power), 22 C1 (power), 23 C2 (power), 24 V1 (power), 25 V2 (power), 26 V3 (power), 66 ACOM (in), 67 DVCC (in), 68 AVSS (in), 69 AVCC (in)

## HD64338083XXXW
designator U?
H8 Family 32/16-bit CISC, H8/300H Super Low Power, 24K ROM, 1K RAM, 4.2MHz, 1.8 to 3.6V, 80-Pin QFP; Published: 28-Aug-2009; DatasheetVersion: Rev.3.00, Aug-2006; PackageVersion: Sep-2005; PackageReference: PTQP0080KC-A; Publisher: Altium Limited; PackageDescription: 80-Pin Plastic Thin Quad Flat Pack, 12 x 12 x 1.0 mm Body, 0.5 mm Pitch; Code_JEITA: P-TQFP80-12x12-0.50; ComponentLink1Description: Manufacturer Link; ComponentLink1URL: http://sg.renesas.com/fmwk.jsp?cnt=h8_family_landing.jsp&fp=/products/mpumcu/h8_family/; ComponentLink2Description: Datasheet; ComponentLink2URL: http://documentation.renesas.com/eng/products/mpumcu/rej09b0182_h838086r.pdf; ComponentLink3Description: Packaging Specification; ComponentLink3URL: http://sg.renesas.com/media/products/common_info/package/pdf/ic/code/ptqp0080kc_a.pdf
footprint PTQP0080KC-A_N (Thin QFP, 80-Leads, Body 12x12mm, Pitch 0.5mm, IPC Medium Density)
footprint PTQP0080KC-A_L (Thin QFP, 80-Leads, Body 12x12mm, Pitch 0.5mm, IPC High Density)
footprint PTQP0080KC-A_M (Thin QFP, 80-Leads, Body 12x12mm, Pitch 0.5mm, IPC Low Density)
part A pins: 1 P13/TIOCB1/TCLKB (io), 2 P14/TIOCA2/TCLKC (io), 3 P15/TIOCB2 (io), 4 P16/SCK4 (io), 5 P30/SCK32/TMOW (io), 6 P31/RXD32/SDA (io), 7 P32/TXD32/SCL (io), 8 P36/SI4 (io), 9 P37/SO4 (io), 10 X1 (in), 11 X2 (out), 13 OSC2 (out), 14 OSC1 (in), 15 TEST/~{ADTRG} (in), 16 ~{RES} (in), 17 ~{NMI} (in), 18 P40/SCK31/TMIF (io), 19 P41/RXD31/IRRXD/TMOFL (io), 20 P42/TXD31/IRTXD/TMOFH (io), 27 PA0/COM1 (io), 28 PA1/COM2 (io), 29 PA2/COM3 (io), 30 PA3/COM4 (io), 31 P50/~{WKP0}/SEG1 (io), 32 P51/~{WKP1}/SEG2 (io), 33 P52/~{WKP2}/SEG3 (io), 34 P53/~{WKP3}/SEG4 (io), 35 P54/~{WKP4}/SEG5 (io), 36 P55/~{WKP5}/SEG6 (io), 37 P56/~{WKP6}/SEG7 (io), 38 P57/~{WKP7}/SEG8 (io), 39 P60/SEG9 (io), 40 P61/SEG10 (io), 41 P62/SEG11 (io), 42 P63/SEG12 (io), 43 P64/SEG13 (io), 44 P65/SEG14 (io), 45 P66/SEG15 (io), 46 P67/SEG16 (io), 47 P70/SEG17 (io), 48 P71/SEG18 (io), 49 P72/SEG19 (io), 50 P73/SEG20 (io), 51 P74/SEG21 (io), 52 P75/SEG22 (io), 53 P76/SEG23 (io), 54 P77/SEG24 (io), 55 P80/SEG25 (io), 56 P81/SEG26 (io), 57 P82/SEG27 (io), 58 P83/SEG28 (io), 59 P84/SEG29 (io), 60 P85/SEG30 (io), 61 P86/SEG31 (io), 62 P87/SEG32 (io), 63 PB7/AIN1 (in), 64 PB6/AIN2 (in), 65 PB5/VREF/REF (in), 70 PB2/AN2/~{IRQ3} (in), 71 PB1/AN1/~{IRQ1} (in), 72 PB0/AN0/~{IRQ0} (in), 73 IRQAEC (in), 74 P90/PWM1 (io), 75 P91/PWM2 (io), 76 P92/~{IRQ4} (io), 77 P93 (io), 78 P10/AEVH (io), 79 P11/AEVL (io), 80 P12/TIOCA1/TCLKA (io)
part B pins: 12 VSS (power), 21 VCC (power), 22 C1 (power), 23 C2 (power), 24 V1 (power), 25 V2 (power), 26 V3 (power), 66 ACOM (in), 67 DVCC (in), 68 AVSS (in), 69 AVCC (in)

## HD64338084RXXXH
designator U?
H8 Family 32/16-bit CISC, H8/300H Super Low Power, 32K ROM, 1K RAM, 4.2MHz, 1.8 to 3.6V, 80-Pin QFP; Published: 28-Aug-2009; DatasheetVersion: Rev.3.00, Aug-2006; PackageVersion: Sep-2005; PackageReference: PRQP0080JB-A; Publisher: Altium Limited; PackageDescription: 80-Pin Plastic Quad Flat Pack, 14 x 14 x 2.7 mm Body, 0.65 mm Pitch; Code_JEITA: P-QFP80-14x14-0.65; Code_IPC: QFP65P1720X1720-80; ComponentLink1Description: Manufacturer Link; ComponentLink1URL: http://sg.renesas.com/fmwk.jsp?cnt=h8_family_landing.jsp&fp=/products/mpumcu/h8_family/; ComponentLink2Description: Datasheet; ComponentLink2URL: http://documentation.renesas.com/eng/products/mpumcu/rej09b0182_h838086r.pdf; ComponentLink3Description: Packaging Specification; ComponentLink3URL: http://sg.renesas.com/media/products/common_info/package/pdf/ic/code/prqp0080jb_a.pdf
footprint PRQP0080JB-A_N (QFP, 80-Leads, Body 14x14mm, Pitch 0.65mm, IPC Medium Density)
footprint PRQP0080JB-A_L (QFP, 80-Leads, Body 14x14mm, Pitch 0.65mm, IPC High Density)
footprint PRQP0080JB-A_M (QFP, 80-Leads, Body 14x14mm, Pitch 0.65mm, IPC Low Density)
part A pins: 1 P13/TIOCB1/TCLKB (io), 2 P14/TIOCA2/TCLKC (io), 3 P15/TIOCB2 (io), 4 P16/SCK4 (io), 5 P30/SCK32/TMOW (io), 6 P31/RXD32/SDA (io), 7 P32/TXD32/SCL (io), 8 P36/SI4 (io), 9 P37/SO4 (io), 10 X1 (in), 11 X2 (out), 13 OSC2 (out), 14 OSC1 (in), 15 TEST/~{ADTRG} (in), 16 ~{RES} (in), 17 ~{NMI} (in), 18 P40/SCK31/TMIF (io), 19 P41/RXD31/IRRXD/TMOFL (io), 20 P42/TXD31/IRTXD/TMOFH (io), 27 PA0/COM1 (io), 28 PA1/COM2 (io), 29 PA2/COM3 (io), 30 PA3/COM4 (io), 31 P50/~{WKP0}/SEG1 (io), 32 P51/~{WKP1}/SEG2 (io), 33 P52/~{WKP2}/SEG3 (io), 34 P53/~{WKP3}/SEG4 (io), 35 P54/~{WKP4}/SEG5 (io), 36 P55/~{WKP5}/SEG6 (io), 37 P56/~{WKP6}/SEG7 (io), 38 P57/~{WKP7}/SEG8 (io), 39 P60/SEG9 (io), 40 P61/SEG10 (io), 41 P62/SEG11 (io), 42 P63/SEG12 (io), 43 P64/SEG13 (io), 44 P65/SEG14 (io), 45 P66/SEG15 (io), 46 P67/SEG16 (io), 47 P70/SEG17 (io), 48 P71/SEG18 (io), 49 P72/SEG19 (io), 50 P73/SEG20 (io), 51 P74/SEG21 (io), 52 P75/SEG22 (io), 53 P76/SEG23 (io), 54 P77/SEG24 (io), 55 P80/SEG25 (io), 56 P81/SEG26 (io), 57 P82/SEG27 (io), 58 P83/SEG28 (io), 59 P84/SEG29 (io), 60 P85/SEG30 (io), 61 P86/SEG31 (io), 62 P87/SEG32 (io), 63 PB7/AIN1 (in), 64 PB6/AIN2 (in), 65 PB5/VREF/REF (in), 70 PB2/AN2/~{IRQ3} (in), 71 PB1/AN1/~{IRQ1} (in), 72 PB0/AN0/~{IRQ0} (in), 73 IRQAEC (in), 74 P90/PWM1 (io), 75 P91/PWM2 (io), 76 P92/~{IRQ4} (io), 77 P93 (io), 78 P10/AEVH (io), 79 P11/AEVL (io), 80 P12/TIOCA1/TCLKA (io)
part B pins: 12 VSS (power), 21 VCC (power), 22 C1 (power), 23 C2 (power), 24 V1 (power), 25 V2 (power), 26 V3 (power), 66 ACOM (in), 67 DVCC (in), 68 AVSS (in), 69 AVCC (in)

## HD64338084RXXXLPV
designator U?
H8 Family 32/16-bit CISC, H8/300H Super Low Power, 32K ROM, 1K RAM, 4.2MHz, 1.8 to 3.6V, 85-Ball BGA; Published: 28-Aug-2009; DatasheetVersion: Rev.3.00, Aug-2006; PackageVersion: Sep-2005; PackageReference: PTLG0085JA-A; Publisher: Altium Limited; PackageDescription: 85-Ball Plastic Thin Fine-Pitch BGA, 7 x 7 mm Body, 0.65 mm Pitch; Code_JEITA: P-TFLGA85-7x7-0.65; ComponentLink1Description: Manufacturer Link; ComponentLink1URL: http://sg.renesas.com/fmwk.jsp?cnt=h8_family_landing.jsp&fp=/products/mpumcu/h8_family/; ComponentLink2Description: Datasheet; ComponentLink2URL: http://documentation.renesas.com/eng/products/mpumcu/rej09b0182_h838086r.pdf; ComponentLink3Description: Packaging Specification; ComponentLink3URL: http://sg.renesas.com/media/products/common_info/package/pdf/ic/code/ptlg0085ja_a.pdf
footprint PTLG0085JA-A (BGA, 85-Leads, Body 7x7mm, Pitch 0.65mm)
part A pins: A2 P11/AEVL (io), A3 P12/TIOCA1/TCLKA (io), A4 P93 (io), A5 P90/PWM1 (io), A7 PB5/VREF/REF (in), A8 P87/SEG32 (io), A9 P86/SEG31 (io), B1 P13/TIOCB1/TCLKB (io), B2 P15/TIOCB2 (io), B3 P92/~{IRQ4} (io), B4 P91/PWM2 (io), B5 PB2/AN2/~{IRQ3} (in), B6 PB1/AN1/~{IRQ1} (power), B8 PB6/AIN2 (in), B9 PB7/AIN1 (in), B10 P84/SEG29 (io), C1 P14/TIOCA2/TCLKC (io), C2 P16/SCK4 (io), C3 P10/AEVH (io), C4 IRQAEC (in), C5 PB0/AN0/~{IRQ0} (power), C8 P83/SEG28 (io), C9 P81/SEG26 (io), C10 P85/SEG30 (io), D1 P30/SCK32/TMOW (io), D2 P32/TXD32/SCL (io), D3 P31/RXD32/SDA (io), D8 P76/SEG23 (io), D9 P80/SEG25 (io), D10 P82/SEG27 (io), E1 P36/SI4 (io), E2 X2 (out), E3 P37/SO4 (io), E8 P75/SEG22 (io), E9 P73/SEG20 (io), E10 P77/SEG24 (io), F1 OSC1 (in), F2 X1 (in), F8 P72/SEG19 (io), F9 P74/SEG21 (io), F10 P71/SEG18 (io), G1 ~{NMI} (in), G2 TEST/~{ADTRG} (in), G3 OSC2 (out), G8 P67/SEG16 (io), G9 P70/SEG17 (io), G10 P66/SEG15 (io), H1 P42/TXD31/IRTXD/TMOFH (io), H2 ~{RES} (in), H3 P40/SCK31/TMIF (io), H5 PA2/COM3 (io), H6 P51/~{WKP1}/SEG2 (io), H7 P52/~{WKP2}/SEG3 (io), H8 P57/~{WKP7}/SEG8 (io), H9 P65/SEG14 (io), H10 P63/SEG12 (io), J1 P41/RXD31/IRRXD/TMOFL (io), J4 PA0/COM1 (io), J5 P50/~{WKP0}/SEG1 (io), J6 PA3/COM4 (io), J7 P54/WKP4/SEG5 (io), J8 P55/~{WKP5}/SEG6 (io), J9 P64/SEG13 (io), J10 P62/SEG11 (io), K5 PA1/COM2 (io), K6 P53/~{WKP3}/SEG4 (io), K7 P56/~{WKP6}/SEG7 (io), K8 P61/SEG10 (io), K9 P60/SEG9 (io)
part B pins: A1 NC (in), A6 AVSS (in), A10 NC, B7 DVCC (in), C6 AVCC (in), C7 ACOM (in), D4 NC, F3 VSS (power), H4 V3 (power), J2 C2 (power), J3 V1 (power), K1 NC, K2 VCC (power), K3 C1 (power), K4 V2 (power), K10 NC

## HD64338084RXXXW
designator U?
H8 Family 32/16-bit CISC, H8/300H Super Low Power, 32K ROM, 1K RAM, 4.2MHz, 1.8 to 3.6V, 80-Pin QFP; Published: 28-Aug-2009; DatasheetVersion: Rev.3.00, Aug-2006; PackageVersion: Sep-2005; PackageReference: PTQP0080KC-A; Publisher: Altium Limited; PackageDescription: 80-Pin Plastic Thin Quad Flat Pack, 12 x 12 x 1.0 mm Body, 0.5 mm Pitch; Code_JEITA: P-TQFP80-12x12-0.50; ComponentLink1Description: Manufacturer Link; ComponentLink1URL: http://sg.renesas.com/fmwk.jsp?cnt=h8_family_landing.jsp&fp=/products/mpumcu/h8_family/; ComponentLink2Description: Datasheet; ComponentLink2URL: http://documentation.renesas.com/eng/products/mpumcu/rej09b0182_h838086r.pdf; ComponentLink3Description: Packaging Specification; ComponentLink3URL: http://sg.renesas.com/media/products/common_info/package/pdf/ic/code/ptqp0080kc_a.pdf
footprint PTQP0080KC-A_N (Thin QFP, 80-Leads, Body 12x12mm, Pitch 0.5mm, IPC Medium Density)
footprint PTQP0080KC-A_L (Thin QFP, 80-Leads, Body 12x12mm, Pitch 0.5mm, IPC High Density)
footprint PTQP0080KC-A_M (Thin QFP, 80-Leads, Body 12x12mm, Pitch 0.5mm, IPC Low Density)
part A pins: 1 P13/TIOCB1/TCLKB (io), 2 P14/TIOCA2/TCLKC (io), 3 P15/TIOCB2 (io), 4 P16/SCK4 (io), 5 P30/SCK32/TMOW (io), 6 P31/RXD32/SDA (io), 7 P32/TXD32/SCL (io), 8 P36/SI4 (io), 9 P37/SO4 (io), 10 X1 (in), 11 X2 (out), 13 OSC2 (out), 14 OSC1 (in), 15 TEST/~{ADTRG} (in), 16 ~{RES} (in), 17 ~{NMI} (in), 18 P40/SCK31/TMIF (io), 19 P41/RXD31/IRRXD/TMOFL (io), 20 P42/TXD31/IRTXD/TMOFH (io), 27 PA0/COM1 (io), 28 PA1/COM2 (io), 29 PA2/COM3 (io), 30 PA3/COM4 (io), 31 P50/~{WKP0}/SEG1 (io), 32 P51/~{WKP1}/SEG2 (io), 33 P52/~{WKP2}/SEG3 (io), 34 P53/~{WKP3}/SEG4 (io), 35 P54/~{WKP4}/SEG5 (io), 36 P55/~{WKP5}/SEG6 (io), 37 P56/~{WKP6}/SEG7 (io), 38 P57/~{WKP7}/SEG8 (io), 39 P60/SEG9 (io), 40 P61/SEG10 (io), 41 P62/SEG11 (io), 42 P63/SEG12 (io), 43 P64/SEG13 (io), 44 P65/SEG14 (io), 45 P66/SEG15 (io), 46 P67/SEG16 (io), 47 P70/SEG17 (io), 48 P71/SEG18 (io), 49 P72/SEG19 (io), 50 P73/SEG20 (io), 51 P74/SEG21 (io), 52 P75/SEG22 (io), 53 P76/SEG23 (io), 54 P77/SEG24 (io), 55 P80/SEG25 (io), 56 P81/SEG26 (io), 57 P82/SEG27 (io), 58 P83/SEG28 (io), 59 P84/SEG29 (io), 60 P85/SEG30 (io), 61 P86/SEG31 (io), 62 P87/SEG32 (io), 63 PB7/AIN1 (in), 64 PB6/AIN2 (in), 65 PB5/VREF/REF (in), 70 PB2/AN2/~{IRQ3} (in), 71 PB1/AN1/~{IRQ1} (in), 72 PB0/AN0/~{IRQ0} (in), 73 IRQAEC (in), 74 P90/PWM1 (io), 75 P91/PWM2 (io), 76 P92/~{IRQ4} (io), 77 P93 (io), 78 P10/AEVH (io), 79 P11/AEVL (io), 80 P12/TIOCA1/TCLKA (io)
part B pins: 12 VSS (power), 21 VCC (power), 22 C1 (power), 23 C2 (power), 24 V1 (power), 25 V2 (power), 26 V3 (power), 66 ACOM (in), 67 DVCC (in), 68 AVSS (in), 69 AVCC (in)

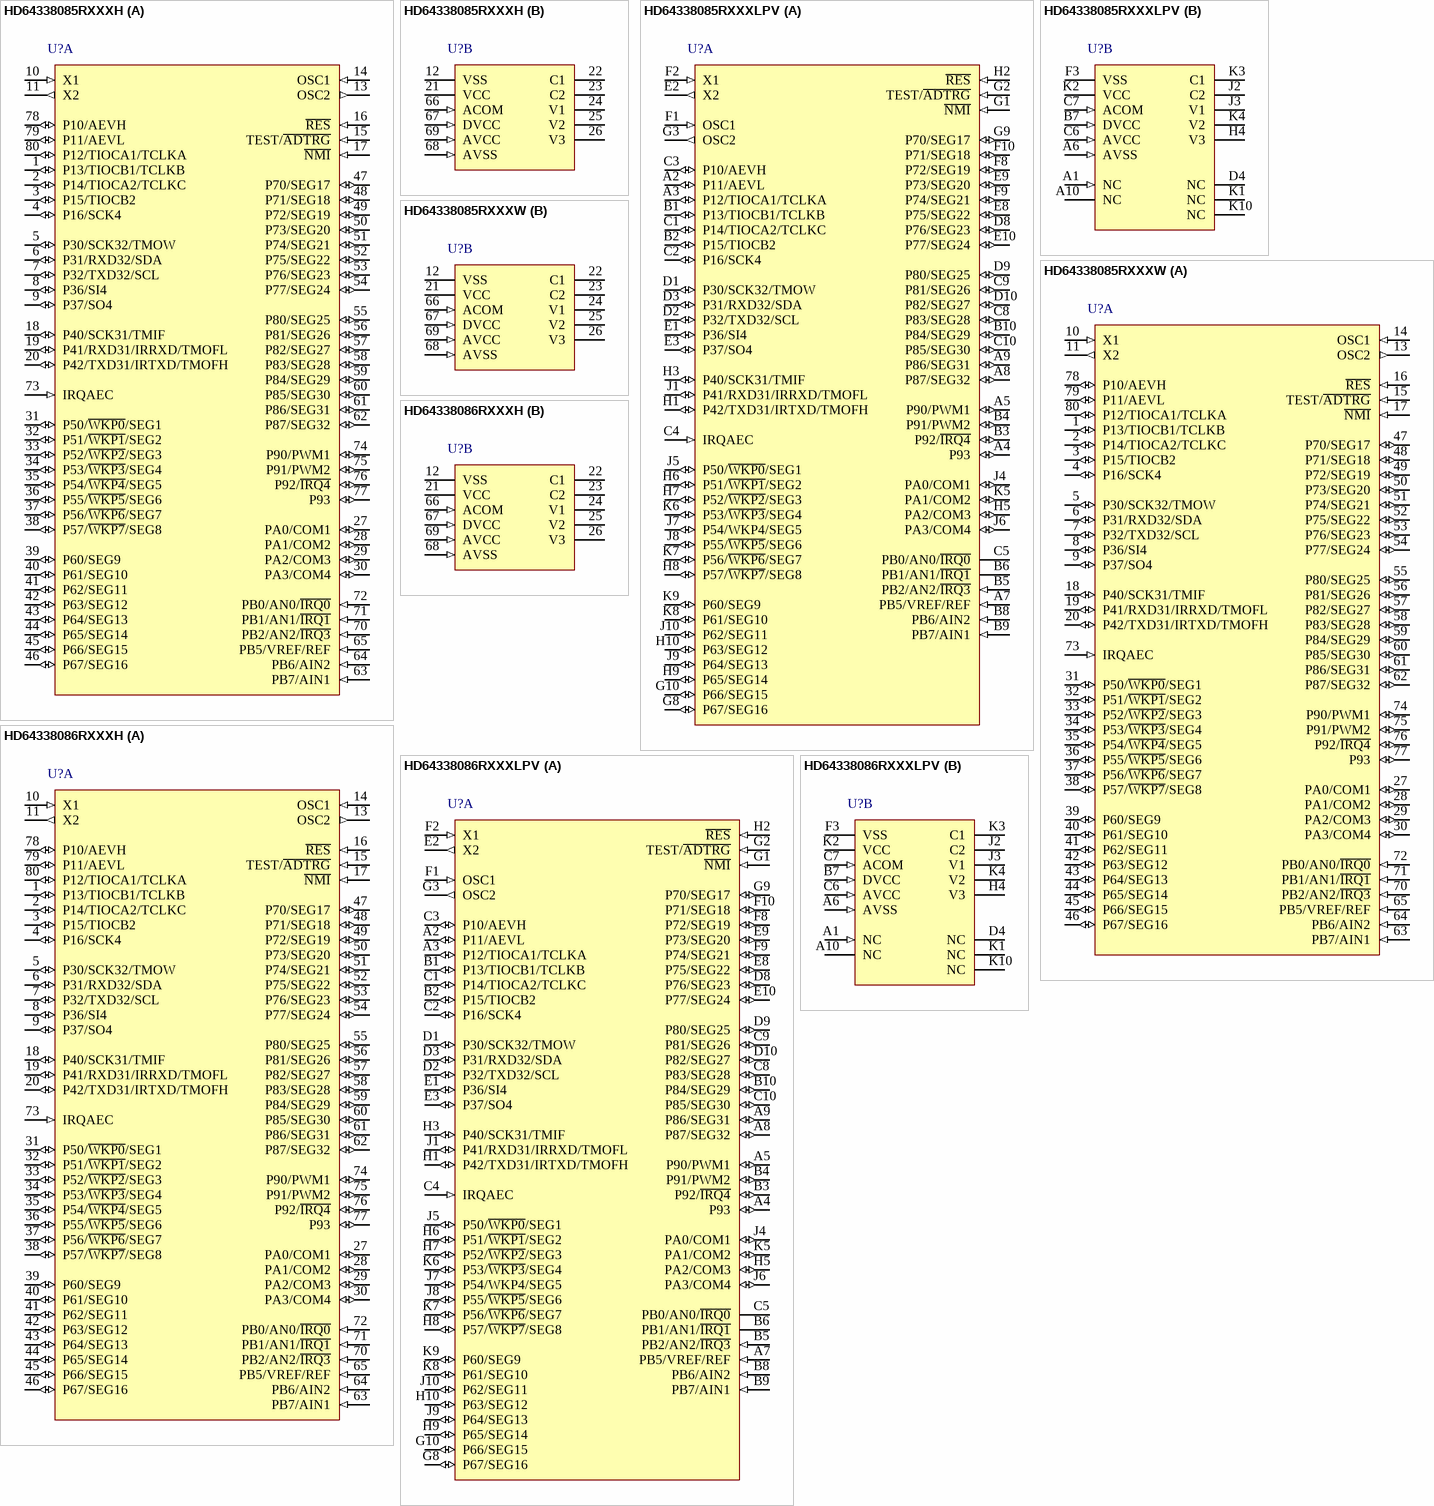
[diagram p79: symbols HD64338085RXXXH to HD64338086RXXXLPV]